# Altium integrated library SHMELib.IntLib: 385 symbols (part 2 of 3)
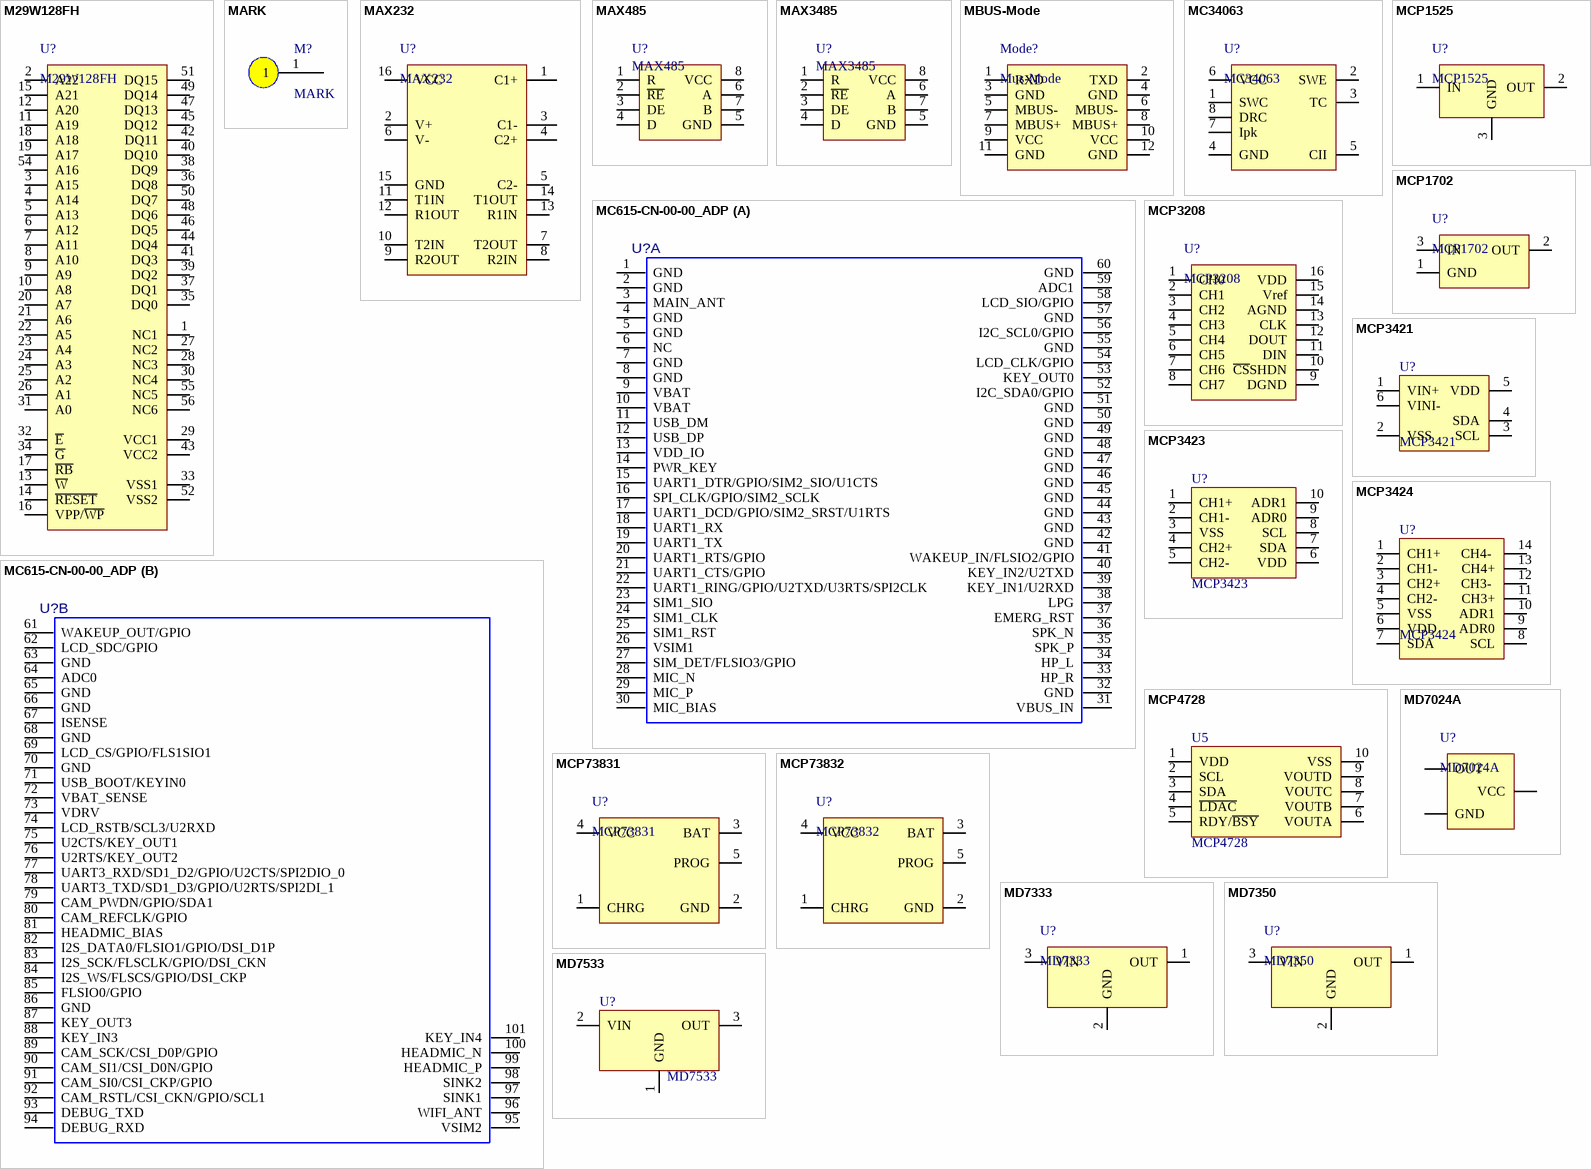
[diagram p19: symbols M29W128FH to MD7533]

## MD7024A
designator U?
footprint SOT23-3
pins: 1 OUT, 2 GND, 3 VCC

## MD7333
designator U?
CMOS电压稳压电路
footprint SOT-89-3L
pins: 1 OUT, 2 GND, 3 VIN

## MD7350
designator U?
footprint SOT-89-3L
pins: 1 OUT, 2 GND, 3 VIN

## MD7533
designator U?
footprint SOT-89-3L
pins: 1 GND, 2 VIN, 3 OUT

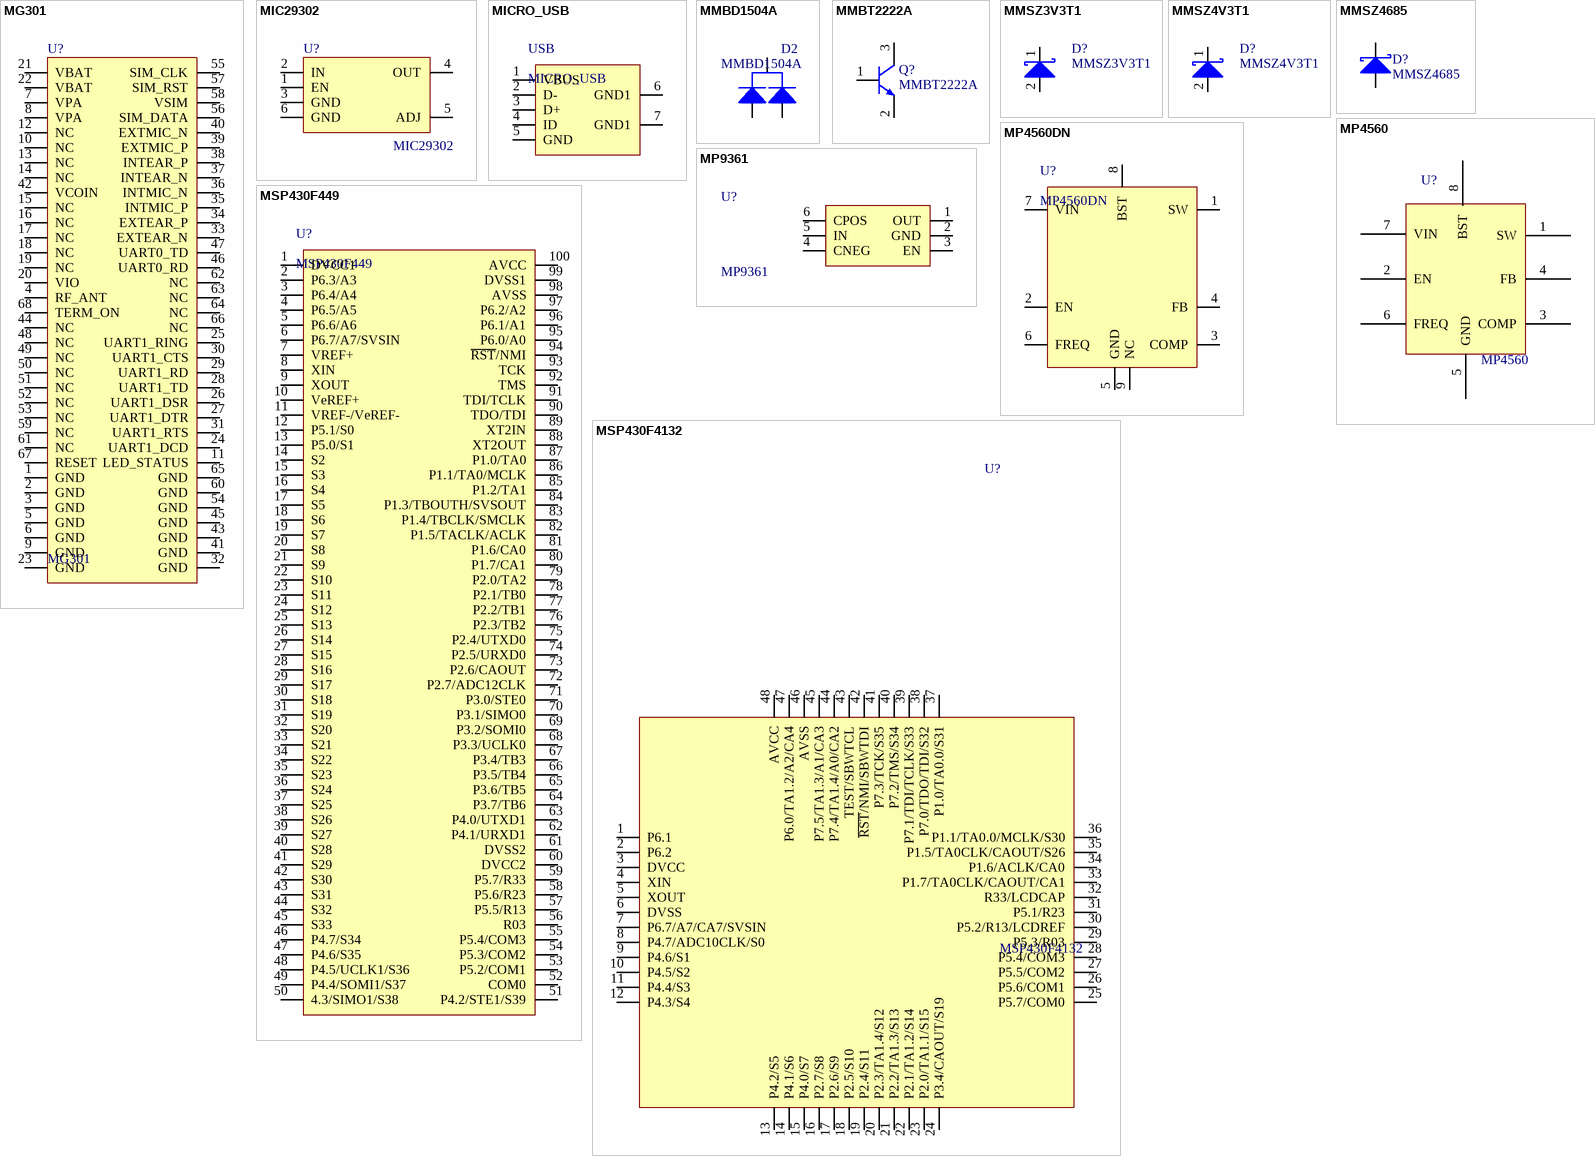
[diagram p9: symbols MG301 to MSP430F4132]

## MG301
designator U?
SIMCOM GPRS Module
footprint MG301
pins: 1 GND, 2 GND, 3 GND, 4 RF_ANT, 5 GND, 6 GND, 7 VPA, 8 VPA, 9 GND, 10 NC, 11 LED_STATUS, 12 NC, 13 NC, 14 NC, 15 NC, 16 NC, 17 NC, 18 NC, 19 NC, 20 VIO, 21 VBAT, 22 VBAT, 23 GND, 24 UART1_DCD, 25 UART1_RING, 26 UART1_DSR, 27 UART1_DTR, 28 UART1_TD, 29 UART1_RD, 30 UART1_CTS, 31 UART1_RTS, 32 GND, 33 EXTEAR_N, 34 EXTEAR_P, 35 INTMIC_P, 36 INTMIC_N, 37 INTEAR_N, 38 INTEAR_P, 39 EXTMIC_P, 40 EXTMIC_N, 41 GND, 42 VCOIN, 43 GND, 44 NC, 45 GND, 46 UART0_RD, 47 UART0_TD, 48 NC, 49 NC, 50 NC, 51 NC, 52 NC, 53 NC, 54 GND, 55 SIM_CLK, 56 SIM_DATA, 57 SIM_RST, 58 VSIM, 59 NC, 60 GND, 61 NC, 62 NC, 63 NC, 64 NC, 65 GND, 66 NC, 67 RESET, 68 TERM_ON

## MIC29302
designator U?
High-Current Low-Dropout Regulators
footprint TO-263-5
pins: 1 EN, 2 IN, 3 GND, 4 OUT, 5 ADJ, 6 GND

## MICRO_USB
designator USB
MICRO_USB-B
footprint MINI-USB-180
pins: 1 VBUS, 2 D-, 3 D+, 4 ID, 5 GND, 6 GND1, 7 GND1

## MMBD1504A
designator D2
FAIRCHILD Small Signal Diodes
footprint SOT23-3
pins: 1, 2, 3

## MMBT2222A
designator Q?
footprint SOT23-3
pins: 1 E, 2 B, 3 C

## MMSZ3V3T1
designator D?
TVS
footprint SOD-123
pins: 1 K, 2 A

## MMSZ4V3T1
designator D?
TVS
footprint SOD-123
pins: 1 K, 2 A

## MMSZ4685
designator D?
Schottky Diode
footprint SOD-123
pins: 1 A, 2 K

## MP4560
designator U?
footprint SOP-8-PAD (底部有焊盘)
footprint ZSOP8-PAD (底部有焊盘)
pins: 1 SW, 2 EN, 3 COMP, 4 FB, 5 GND, 6 FREQ, 7 VIN, 8 BST

## MP4560DN
designator U?
footprint MP4560DN_FOOTPRINT
pins: 1 SW, 2 EN, 3 COMP, 4 FB, 5 GND, 6 FREQ, 7 VIN, 8 BST, 9 NC

## MP9361
designator U?
footprint SOT23-6
pins: 1 OUT, 2 GND, 3 EN, 4 CNEG, 5 IN, 6 CPOS

## MSP430F449
designator U?
MIXEDSIGNALMICROCONTROLLER
footprint TQFP-100
pins: 1 DVCC1, 2 P6.3/A3, 3 P6.4/A4, 4 P6.5/A5, 5 P6.6/A6, 6 P6.7/A7/SVSIN, 7 VREF+, 8 XIN, 9 XOUT, 10 VeREF+, 11 VREF-/VeREF-, 12 P5.1/S0, 13 P5.0/S1, 14 S2, 15 S3, 16 S4, 17 S5, 18 S6, 19 S7, 20 S8, 21 S9, 22 S10, 23 S11, 24 S12, 25 S13, 26 S14, 27 S15, 28 S16, 29 S17, 30 S18, 31 S19, 32 S20, 33 S21, 34 S22, 35 S23, 36 S24, 37 S25, 38 S26, 39 S27, 40 S28, 41 S29, 42 S30, 43 S31, 44 S32, 45 S33, 46 P4.7/S34, 47 P4.6/S35, 48 P4.5/UCLK1/S36, 49 P4.4/SOMI1/S37, 50 4.3/SIMO1/S38, 51 P4.2/STE1/S39, 52 COM0, 53 P5.2/COM1, 54 P5.3/COM2, 55 P5.4/COM3, 56 R03, 57 P5.5/R13, 58 P5.6/R23, 59 P5.7/R33, 60 DVCC2, 61 DVSS2, 62 P4.1/URXD1, 63 P4.0/UTXD1, 64 P3.7/TB6, 65 P3.6/TB5, 66 P3.5/TB4, 67 P3.4/TB3, 68 P3.3/UCLK0, 69 P3.2/SOMI0, 70 P3.1/SIMO0, 71 P3.0/STE0, 72 P2.7/ADC12CLK, 73 P2.6/CAOUT, 74 P2.5/URXD0, 75 P2.4/UTXD0, 76 P2.3/TB2, 77 P2.2/TB1, 78 P2.1/TB0, 79 P2.0/TA2, 80 P1.7/CA1, 81 P1.6/CA0, 82 P1.5/TACLK/ACLK, 83 P1.4/TBCLK/SMCLK, 84 P1.3/TBOUTH/SVSOUT, 85 P1.2/TA1, 86 P1.1/TA0/MCLK, 87 P1.0/TA0, 88 XT2OUT, 89 XT2IN, 90 TDO/TDI, 91 TDI/TCLK, 92 TMS, 93 TCK, 94 ~{RST}/NMI, 95 P6.0/A0, 96 P6.1/A1, 97 P6.2/A2, 98 AVSS, 99 DVSS1, 100 AVCC

## MSP430F4132
designator U?
MIXEDSIGNALMICROCONTROLLER
footprint TQFP-48
pins: 1 P6.1, 2 P6.2, 3 DVCC, 4 XIN, 5 XOUT, 6 DVSS, 7 P6.7/A7/CA7/SVSIN, 8 P4.7/ADC10CLK/S0, 9 P4.6/S1, 10 P4.5/S2, 11 P4.4/S3, 12 P4.3/S4, 13 P4.2/S5, 14 P4.1/S6, 15 P4.0/S7, 16 P2.7/S8, 17 P2.6/S9, 18 P2.5/S10, 19 P2.4/S11, 20 P2.3/TA1.4/S12, 21 P2.2/TA1.3/S13, 22 P2.1/TA1.2/S14, 23 P2.0/TA1.1/S15, 24 P3.4/CAOUT/S19, 25 P5.7/COM0, 26 P5.6/COM1, 27 P5.5/COM2, 28 P5.4/COM3, 29 P5.3/R03, 30 P5.2/R13/LCDREF, 31 P5.1/R23, 32 R33/LCDCAP, 33 P1.7/TA0CLK/CAOUT/CA1, 34 P1.6/ACLK/CA0, 35 P1.5/TA0CLK/CAOUT/S26, 36 P1.1/TA0.0/MCLK/S30, 37 P1.0/TA0.0/S31, 38 P7.0/TDO/TDI/S32, 39 P7.1/TDI/TCLK/S33, 40 P7.2/TMS/S34, 41 P7.3/TCK/S35, 42 ~{RST}/NMI/SBWTDI, 43 TEST/SBWTCL, 44 P7.4/TA1.4/A0/CA2, 45 P7.5/TA1.3/A1/CA3, 46 AVSS, 47 P6.0/TA1.2/A2/CA4, 48 AVCC

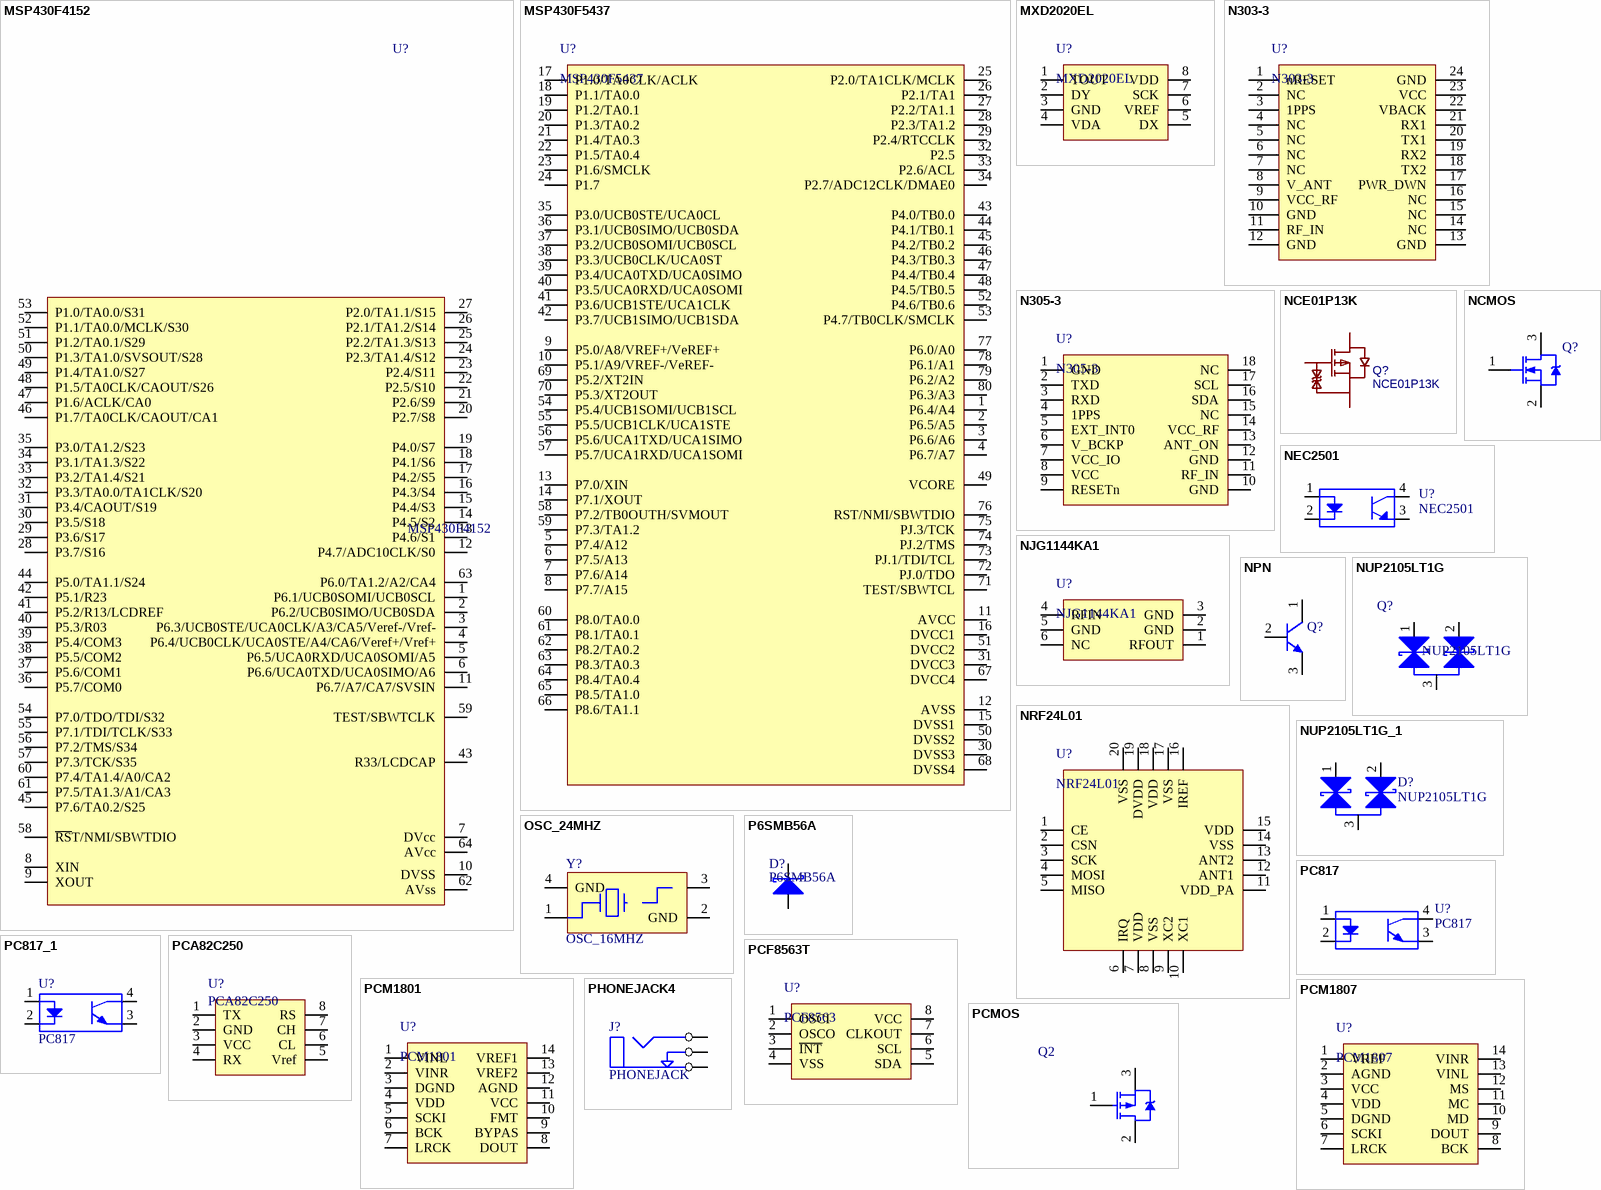
[diagram p10: symbols MSP430F4152 to PHONEJACK4]

## MSP430F4152
designator U?
MIXEDSIGNALMICROCONTROLLER
footprint TQFP-64 (Thin QFP, 64-Leads, Body 10x10mm, Pitch 0.5mm, IPC Low Density)
pins: 1 P6.1/UCB0SOMI/UCB0SCL, 2 P6.2/UCB0SIMO/UCB0SDA, 3 P6.3/UCB0STE/UCA0CLK/A3/CA5/Veref-/Vref-, 4 P6.4/UCB0CLK/UCA0STE/A4/CA6/Veref+/Vref+, 5 P6.5/UCA0RXD/UCA0SOMI/A5, 6 P6.6/UCA0TXD/UCA0SIMO/A6, 7 DVcc, 8 XIN, 9 XOUT, 10 DVSS, 11 P6.7/A7/CA7/SVSIN, 12 P4.7/ADC10CLK/S0, 13 P4.6/S1, 14 P4.5/S2, 15 P4.4/S3, 16 P4.3/S4, 17 P4.2/S5, 18 P4.1/S6, 19 P4.0/S7, 20 P2.7/S8, 21 P2.6/S9, 22 P2.5/S10, 23 P2.4/S11 (power), 24 P2.3/TA1.4/S12, 25 P2.2/TA1.3/S13, 26 P2.1/TA1.2/S14, 27 P2.0/TA1.1/S15, 28 P3.7/S16, 29 P3.6/S17, 30 P3.5/S18, 31 P3.4/CAOUT/S19, 32 P3.3/TA0.0/TA1CLK/S20, 33 P3.2/TA1.4/S21, 34 P3.1/TA1.3/S22, 35 P3.0/TA1.2/S23, 36 P5.7/COM0, 37 P5.6/COM1, 38 P5.5/COM2, 39 P5.4/COM3, 40 P5.3/R03, 41 P5.2/R13/LCDREF, 42 P5.1/R23, 43 R33/LCDCAP, 44 P5.0/TA1.1/S24, 45 P7.6/TA0.2/S25, 46 P1.7/TA0CLK/CAOUT/CA1, 47 P1.6/ACLK/CA0, 48 P1.5/TA0CLK/CAOUT/S26, 49 P1.4/TA1.0/S27, 50 P1.3/TA1.0/SVSOUT/S28, 51 P1.2/TA0.1/S29, 52 P1.1/TA0.0/MCLK/S30, 53 P1.0/TA0.0/S31, 54 P7.0/TDO/TDI/S32, 55 P7.1/TDI/TCLK/S33, 56 P7.2/TMS/S34, 57 P7.3/TCK/S35, 58 ~{RS}T/NMI/SBWTDIO, 59 TEST/SBWTCLK, 60 P7.4/TA1.4/A0/CA2, 61 P7.5/TA1.3/A1/CA3, 62 AVss, 63 P6.0/TA1.2/A2/CA4, 64 AVcc

## MSP430F5437
designator U?
MSP430F543xandMSP430F541xMixed-SignalMicrocontrollers
footprint TQFP-80
pins: 1 P6.4/A4, 2 P6.5/A5, 3 P6.6/A6, 4 P6.7/A7, 5 P7.4/A12, 6 P7.5/A13, 7 P7.6/A14, 8 P7.7/A15, 9 P5.0/A8/VREF+/VeREF+, 10 P5.1/A9/VREF-/VeREF-, 11 AVCC, 12 AVSS, 13 P7.0/XIN, 14 P7.1/XOUT, 15 DVSS1, 16 DVCC1, 17 P1.0/TA0CLK/ACLK, 18 P1.1/TA0.0, 19 P1.2/TA0.1, 20 P1.3/TA0.2, 21 P1.4/TA0.3, 22 P1.5/TA0.4, 23 P1.6/SMCLK, 24 P1.7, 25 P2.0/TA1CLK/MCLK, 26 P2.1/TA1, 27 P2.2/TA1.1, 28 P2.3/TA1.2, 29 P2.4/RTCCLK, 30 DVSS3, 31 DVCC3, 32 P2.5, 33 P2.6/ACL, 34 P2.7/ADC12CLK/DMAE0, 35 P3.0/UCB0STE/UCA0CL, 36 P3.1/UCB0SIMO/UCB0SDA, 37 P3.2/UCB0SOMI/UCB0SCL, 38 P3.3/UCB0CLK/UCA0ST, 39 P3.4/UCA0TXD/UCA0SIMO, 40 P3.5/UCA0RXD/UCA0SOMI, 41 P3.6/UCB1STE/UCA1CLK, 42 P3.7/UCB1SIMO/UCB1SDA, 43 P4.0/TB0.0, 44 P4.1/TB0.1, 45 P4.2/TB0.2, 46 P4.3/TB0.3, 47 P4.4/TB0.4, 48 P4.5/TB0.5, 49 VCORE, 50 DVSS2, 51 DVCC2, 52 P4.6/TB0.6, 53 P4.7/TB0CLK/SMCLK, 54 P5.4/UCB1SOMI/UCB1SCL, 55 P5.5/UCB1CLK/UCA1STE, 56 P5.6/UCA1TXD/UCA1SIMO, 57 P5.7/UCA1RXD/UCA1SOMI, 58 P7.2/TB0OUTH/SVMOUT, 59 P7.3/TA1.2, 60 P8.0/TA0.0, 61 P8.1/TA0.1, 62 P8.2/TA0.2, 63 P8.3/TA0.3, 64 P8.4/TA0.4, 65 P8.5/TA1.0, 66 P8.6/TA1.1, 67 DVCC4, 68 DVSS4, 69 P5.2/XT2IN, 70 P5.3/XT2OUT, 71 TEST/SBWTCL, 72 PJ.0/TDO, 73 PJ.1/TDI/TCL, 74 PJ.2/TMS, 75 PJ.3/TCK, 76 RST/NMI/SBWTDIO, 77 P6.0/A0, 78 P6.1/A1, 79 P6.2/A2, 80 P6.3/A3

## MXD2020EL
designator U?
footprint MXD2020EL
pins: 1 TOUT, 2 DY, 3 GND, 4 VDA, 5 DX, 6 VREF, 7 SCK, 8 VDD

## N303-3
designator U?
footprint N303-3
pins: 1 nRESET, 2 NC, 3 1PPS, 4 NC, 5 NC, 6 NC, 7 NC, 8 V_ANT, 9 VCC_RF, 10 GND, 11 RF_IN, 12 GND, 13 GND, 14 NC, 15 NC, 16 NC, 17 PWR_DWN, 18 TX2, 19 RX2, 20 TX1, 21 RX1, 22 VBACK, 23 VCC, 24 GND

## N305-3
designator U?
footprint N305 -3
pins: 1 GND, 2 TXD, 3 RXD, 4 1PPS, 5 EXT_INT0, 6 V_BCKP, 7 VCC_IO, 8 VCC, 9 RESETn, 10 GND, 11 RF_IN, 12 GND, 13 ANT_ON, 14 VCC_RF, 15 NC, 16 SDA, 17 SCL, 18 NC

## NCE01P13K
designator Q?
footprint TO-252-2_L6.6-W6.1-P4.57-LS9.9-TL-CW
pins: 1 G, 2 D, 3 S

## NCMOS
designator Q?
N-Channel MOSFET
footprint SOT23-3
pins: 1 G, 2 S, 3 D

## NEC2501
designator U?
光电耦合器
footprint PC817
pins: 1, 2, 3, 4

## NJG1144KA1
designator U?
pins: 1 RFOUT, 2 GND, 3 GND, 4 RFIN, 5 GND, 6 NC

## NPN
designator Q?
NPN General Purpose Amplifier
footprint SOT23-3
footprint TO-92 (TO, Flat Index; 3 In-Line, Axial Leads; Body Dia. 4.8mm; Leads 0.55 x 0.51 mm (max))
footprint SOT-89-3L
pins: 1 E, 2 B, 3 C

## NRF24L01
designator U?
pins: 1 CE, 2 CSN, 3 SCK, 4 MOSI, 5 MISO, 6 IRQ, 7 VDD, 8 VSS, 9 XC2, 10 XC1, 11 VDD_PA, 12 ANT1, 13 ANT2, 14 VSS, 15 VDD, 16 IREF, 17 VSS, 18 VDD, 19 DVDD, 20 VSS

## NUP2105LT1G
designator Q?
footprint SOT23-3
pins: 1, 2, 3

## NUP2105LT1G_1
designator D?, comment NUP2105LT1G
TVS
footprint SOT23-3
footprint ZSOT23-3
pins: 1, 2, 3

## OSC_24MHZ
designator Y?, comment OSC_16MHZ
footprint OSC_SMD3225
pins: 1, 2 GND, 3, 4 GND
2 alternate drawings of the same symbol

## P6SMB56A
designator D?
Schottky Diode
footprint SMB
pins: 1 A, 2 K

## PC817
designator U?
光电耦合器
footprint PC817
footprint PC817 - SMT
pins: 1, 2, 3, 4

## PC817_1
designator U?, comment PC817
光电耦合器
footprint PC817
footprint PC817 - SMT
pins: 1, 2, 3, 4

## PCA82C250
designator U?
CAN BUS
footprint SO-8
pins: 1 TX, 2 GND, 3 VCC, 4 RX, 5 Vref, 6 CL, 7 CH, 8 RS

## PCF8563T
designator U?, comment PCF8563
RTC
footprint SO-8
pins: 1 OSCI, 2 OSCO, 3 ~{INT}, 4 VSS, 5 SDA, 6 SCL, 7 CLKOUT, 8 VCC

## PCM1801
designator U?
SINGLE-ENDED ANALOG-INPUT 16-BIT STEREO ANALOG-TO-DIGITAL CONVERTER
footprint SO-14
pins: 1 VINL, 2 VINR, 3 DGND, 4 VDD, 5 SCKI, 6 BCK, 7 LRCK, 8 DOUT, 9 BYPAS, 10 FMT, 11 VCC, 12 AGND, 13 VREF2, 14 VREF1

## PCM1807
designator U?
Single-Ended, Analog-Input 24-Bit, 96-kHz Stereo A/D Converter
footprint TSSOP-14
pins: 1 VREF, 2 AGND, 3 VCC, 4 VDD, 5 DGND, 6 SCKI, 7 LRCK, 8 BCK, 9 DOUT, 10 MD, 11 MC, 12 MS, 13 VINL, 14 VINR

## PCMOS
designator Q2
P-Channel Power MOSFET
footprint SOT23-3
pins: 1 G, 2 D, 3 S

## PHONEJACK4
designator J?, comment PHONEJACK
footprint DS-313
pins: 1 A, 2 B, 3 C

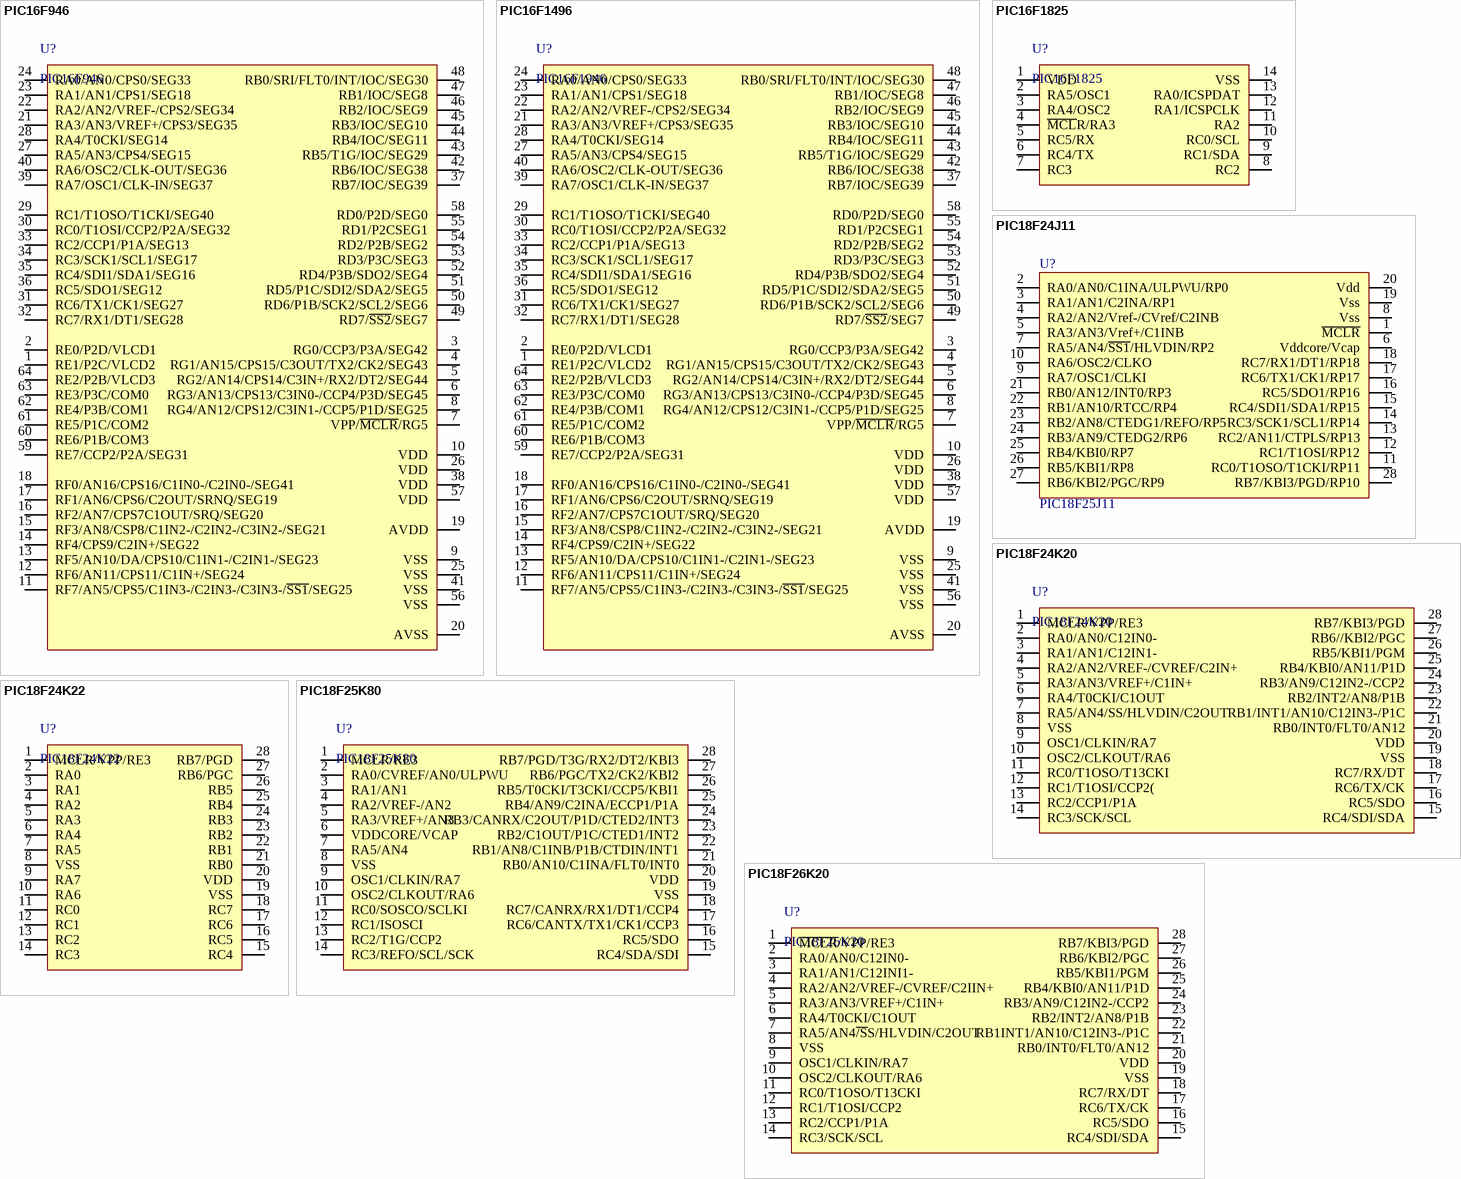
[diagram p11: symbols PIC16F946 to PIC18F26K20]

## PIC16F946
designator U?
footprint TQFP-64 (Thin QFP, 64-Leads, Body 14x14mm, Pitch 0.8mm, IPC Low Density)
pins: 1 RE1/P2C/VLCD2, 2 RE0/P2D/VLCD1, 3 RG0/CCP3/P3A/SEG42, 4 RG1/AN15/CPS15/C3OUT/TX2/CK2/SEG43, 5 RG2/AN14/CPS14/C3IN+/RX2/DT2/SEG44, 6 RG3/AN13/CPS13/C3IN0-/CCP4/P3D/SEG45, 7 VPP/~{MCLR}/RG5, 8 RG4/AN12/CPS12/C3IN1-/CCP5/P1D/SEG25, 9 VSS, 10 VDD, 11 RF7/AN5/CPS5/C1IN3-/C2IN3-/C3IN3-/~{SS1}/SEG25, 12 RF6/AN11/CPS11/C1IN+/SEG24, 13 RF5/AN10/DA/CPS10/C1IN1-/C2IN1-/SEG23, 14 RF4/CPS9/C2IN+/SEG22, 15 RF3/AN8/CSP8/C1IN2-/C2IN2-/C3IN2-/SEG21, 16 RF2/AN7/CPS7C1OUT/SRQ/SEG20, 17 RF1/AN6/CPS6/C2OUT/SRNQ/SEG19, 18 RF0/AN16/CPS16/C1IN0-/C2IN0-/SEG41, 19 AVDD, 20 AVSS, 21 RA3/AN3/VREF+/CPS3/SEG35, 22 RA2/AN2/VREF-/CPS2/SEG34, 23 RA1/AN1/CPS1/SEG18, 24 RA0/AN0/CPS0/SEG33, 25 VSS, 26 VDD, 27 RA5/AN3/CPS4/SEG15, 28 RA4/T0CKI/SEG14, 29 RC1/T1OSO/T1CKI/SEG40, 30 RC0/T1OSI/CCP2/P2A/SEG32, 31 RC6/TX1/CK1/SEG27, 32 RC7/RX1/DT1/SEG28, 33 RC2/CCP1/P1A/SEG13, 34 RC3/SCK1/SCL1/SEG17, 35 RC4/SDI1/SDA1/SEG16, 36 RC5/SDO1/SEG12, 37 RB7/IOC/SEG39, 38 VDD, 39 RA7/OSC1/CLK-IN/SEG37, 40 RA6/OSC2/CLK-OUT/SEG36, 41 VSS, 42 RB6/IOC/SEG38, 43 RB5/T1G/IOC/SEG29, 44 RB4/IOC/SEG11, 45 RB3/IOC/SEG10, 46 RB2/IOC/SEG9, 47 RB1/IOC/SEG8, 48 RB0/SRI/FLT0/INT/IOC/SEG30, 49 RD7/~{SS2}/SEG7, 50 RD6/P1B/SCK2/SCL2/SEG6, 51 RD5/P1C/SDI2/SDA2/SEG5, 52 RD4/P3B/SDO2/SEG4, 53 RD3/P3C/SEG3, 54 RD2/P2B/SEG2, 55 RD1/P2CSEG1, 56 VSS, 57 VDD, 58 RD0/P2D/SEG0, 59 RE7/CCP2/P2A/SEG31, 60 RE6/P1B/COM3, 61 RE5/P1C/COM2, 62 RE4/P3B/COM1, 63 RE3/P3C/COM0, 64 RE2/P2B/VLCD3

## PIC16F1496
designator U?, comment PIC16F1946
footprint TQFP-64 (Thin QFP, 64-Leads, Body 14x14mm, Pitch 0.8mm, IPC Low Density)
pins: 1 RE1/P2C/VLCD2, 2 RE0/P2D/VLCD1, 3 RG0/CCP3/P3A/SEG42, 4 RG1/AN15/CPS15/C3OUT/TX2/CK2/SEG43, 5 RG2/AN14/CPS14/C3IN+/RX2/DT2/SEG44, 6 RG3/AN13/CPS13/C3IN0-/CCP4/P3D/SEG45, 7 VPP/~{MCLR}/RG5, 8 RG4/AN12/CPS12/C3IN1-/CCP5/P1D/SEG25, 9 VSS, 10 VDD, 11 RF7/AN5/CPS5/C1IN3-/C2IN3-/C3IN3-/~{SS1}/SEG25, 12 RF6/AN11/CPS11/C1IN+/SEG24, 13 RF5/AN10/DA/CPS10/C1IN1-/C2IN1-/SEG23, 14 RF4/CPS9/C2IN+/SEG22, 15 RF3/AN8/CSP8/C1IN2-/C2IN2-/C3IN2-/SEG21, 16 RF2/AN7/CPS7C1OUT/SRQ/SEG20, 17 RF1/AN6/CPS6/C2OUT/SRNQ/SEG19, 18 RF0/AN16/CPS16/C1IN0-/C2IN0-/SEG41, 19 AVDD, 20 AVSS, 21 RA3/AN3/VREF+/CPS3/SEG35, 22 RA2/AN2/VREF-/CPS2/SEG34, 23 RA1/AN1/CPS1/SEG18, 24 RA0/AN0/CPS0/SEG33, 25 VSS, 26 VDD, 27 RA5/AN3/CPS4/SEG15, 28 RA4/T0CKI/SEG14, 29 RC1/T1OSO/T1CKI/SEG40, 30 RC0/T1OSI/CCP2/P2A/SEG32, 31 RC6/TX1/CK1/SEG27, 32 RC7/RX1/DT1/SEG28, 33 RC2/CCP1/P1A/SEG13, 34 RC3/SCK1/SCL1/SEG17, 35 RC4/SDI1/SDA1/SEG16, 36 RC5/SDO1/SEG12, 37 RB7/IOC/SEG39, 38 VDD, 39 RA7/OSC1/CLK-IN/SEG37, 40 RA6/OSC2/CLK-OUT/SEG36, 41 VSS, 42 RB6/IOC/SEG38, 43 RB5/T1G/IOC/SEG29, 44 RB4/IOC/SEG11, 45 RB3/IOC/SEG10, 46 RB2/IOC/SEG9, 47 RB1/IOC/SEG8, 48 RB0/SRI/FLT0/INT/IOC/SEG30, 49 RD7/~{SS2}/SEG7, 50 RD6/P1B/SCK2/SCL2/SEG6, 51 RD5/P1C/SDI2/SDA2/SEG5, 52 RD4/P3B/SDO2/SEG4, 53 RD3/P3C/SEG3, 54 RD2/P2B/SEG2, 55 RD1/P2CSEG1, 56 VSS, 57 VDD, 58 RD0/P2D/SEG0, 59 RE7/CCP2/P2A/SEG31, 60 RE6/P1B/COM3, 61 RE5/P1C/COM2, 62 RE4/P3B/COM1, 63 RE3/P3C/COM0, 64 RE2/P2B/VLCD3

## PIC16F1825
designator U?
14/20-Pin Flash Microcontrollers with XLP Technology
footprint TSSOP-14
pins: 1 VDD, 2 RA5/OSC1, 3 RA4/OSC2, 4 ~{MCL}R/RA3, 5 RC5/RX, 6 RC4/TX, 7 RC3, 8 RC2, 9 RC1/SDA, 10 RC0/SCL, 11 RA2, 12 RA1/ICSPCLK, 13 RA0/ICSPDAT, 14 VSS

## PIC18F24J11
designator U?, comment PIC18F25J11
Microchip High-Performance Microcontrollers with nanoWatt XLP Technology
footprint SSOP-28
pins: 1 ~{MCLR}, 2 RA0/AN0/C1INA/ULPWU/RP0, 3 RA1/AN1/C2INA/RP1, 4 RA2/AN2/Vref-/CVref/C2INB, 5 RA3/AN3/Vref+/C1INB, 6 Vddcore/Vcap, 7 RA5/AN4/~{SS1}/HLVDIN/RP2, 8 Vss, 9 RA7/OSC1/CLKI, 10 RA6/OSC2/CLKO, 11 RC0/T1OSO/T1CKI/RP11, 12 RC1/T1OSI/RP12, 13 RC2/AN11/CTPLS/RP13, 14 RC3/SCK1/SCL1/RP14, 15 RC4/SDI1/SDA1/RP15, 16 RC5/SDO1/RP16, 17 RC6/TX1/CK1/RP17, 18 RC7/RX1/DT1/RP18, 19 Vss, 20 Vdd, 21 RB0/AN12/INT0/RP3, 22 RB1/AN10/RTCC/RP4, 23 RB2/AN8/CTEDG1/REFO/RP5, 24 RB3/AN9/CTEDG2/RP6, 25 RB4/KBI0/RP7, 26 RB5/KBI1/RP8, 27 RB6/KBI2/PGC/RP9, 28 RB7/KBI3/PGD/RP10

## PIC18F24K20
designator U?
28/40/44-Pin Flash Microcontrollerswith nanoWatt XLP Technology
footprint SSOP-28
pins: 1 MCLR/VPP/RE3, 2 RA0/AN0/C12IN0- , 3 RA1/AN1/C12IN1-, 4 RA2/AN2/VREF-/CVREF/C2IN+, 5 RA3/AN3/VREF+/C1IN+, 6 RA4/T0CKI/C1OUT, 7 RA5/AN4/SS/HLVDIN/C2OUT, 8 VSS, 9 OSC1/CLKIN/RA7, 10 OSC2/CLKOUT/RA6, 11 RC0/T1OSO/T13CKI, 12 RC1/T1OSI/CCP2(, 13 RC2/CCP1/P1A, 14 RC3/SCK/SCL, 15 RC4/SDI/SDA, 16 RC5/SDO, 17 RC6/TX/CK, 18 RC7/RX/DT, 19 VSS, 20 VDD, 21 RB0/INT0/FLT0/AN12, 22 RB1/INT1/AN10/C12IN3-/P1C, 23 RB2/INT2/AN8/P1B, 24 RB3/AN9/C12IN2-/CCP2, 25 RB4/KBI0/AN11/P1D, 26 RB5/KBI1/PGM, 27 RB6//KBI2/PGC, 28 RB7/KBI3/PGD

## PIC18F24K22
designator U?
Low-Power,  High-Performance Microcontrollers  with XLP Technology
footprint SSOP-28
pins: 1 MCLR/VPP/RE3, 2 RA0, 3 RA1, 4 RA2, 5 RA3, 6 RA4, 7 RA5, 8 VSS, 9 RA7, 10 RA6, 11 RC0, 12 RC1, 13 RC2, 14 RC3, 15 RC4, 16 RC5, 17 RC6, 18 RC7, 19 VSS, 20 VDD, 21 RB0, 22 RB1, 23 RB2, 24 RB3, 25 RB4, 26 RB5, 27 RB6/PGC, 28 RB7/PGD

## PIC18F25K80
designator U?
footprint SSOP-28
pins: 1 MCLR/RE3, 2 RA0/CVREF/AN0/ULPWU, 3 RA1/AN1, 4 RA2/VREF-/AN2, 5 RA3/VREF+/AN3, 6 VDDCORE/VCAP, 7 RA5/AN4, 8 VSS, 9 OSC1/CLKIN/RA7, 10 OSC2/CLKOUT/RA6, 11 RC0/SOSCO/SCLKI, 12 RC1/ISOSCI, 13 RC2/T1G/CCP2, 14 RC3/REFO/SCL/SCK, 15 RC4/SDA/SDI, 16 RC5/SDO, 17 RC6/CANTX/TX1/CK1/CCP3, 18 RC7/CANRX/RX1/DT1/CCP4, 19 VSS, 20 VDD, 21 RB0/AN10/C1INA/FLT0/INT0, 22 RB1/AN8/C1INB/P1B/CTDIN/INT1, 23 RB2/C1OUT/P1C/CTED1/INT2, 24 RB3/CANRX/C2OUT/P1D/CTED2/INT3, 25 RB4/AN9/C2INA/ECCP1/P1A, 26 RB5/T0CKI/T3CKI/CCP5/KBI1, 27 RB6/PGC/TX2/CK2/KBI2, 28 RB7/PGD/T3G/RX2/DT2/KBI3

## PIC18F26K20
designator U?
28/40/44-Pin Flash Microcontrollers with nanoWatt XLP Technology
footprint SSOP-28
pins: 1 ~{MCLR}/VPP/RE3, 2 RA0/AN0/C12IN0-, 3 RA1/AN1/C12INI1-, 4 RA2/AN2/VREF-/CVREF/C2IIN+, 5 RA3/AN3/VREF+/C1IN+, 6 RA4/T0CKI/C1OUT, 7 RA5/AN4~{/S}S/HLVDIN/C2OUT, 8 VSS, 9 OSC1/CLKIN/RA7, 10 OSC2/CLKOUT/RA6, 11 RC0/T1OSO/T13CKI, 12 RC1/T1OSI/CCP2, 13 RC2/CCP1/P1A, 14 RC3/SCK/SCL, 15 RC4/SDI/SDA, 16 RC5/SDO, 17 RC6/TX/CK, 18 RC7/RX/DT, 19 VSS, 20 VDD, 21 RB0/INT0/FLT0/AN12, 22 RB1INT1/AN10/C12IN3-/P1C, 23 RB2/INT2/AN8/P1B, 24 RB3/AN9/C12IN2-/CCP2, 25 RB4/KBI0/AN11/P1D, 26 RB5/KBI1/PGM, 27 RB6/KBI2/PGC, 28 RB7/KBI3/PGD

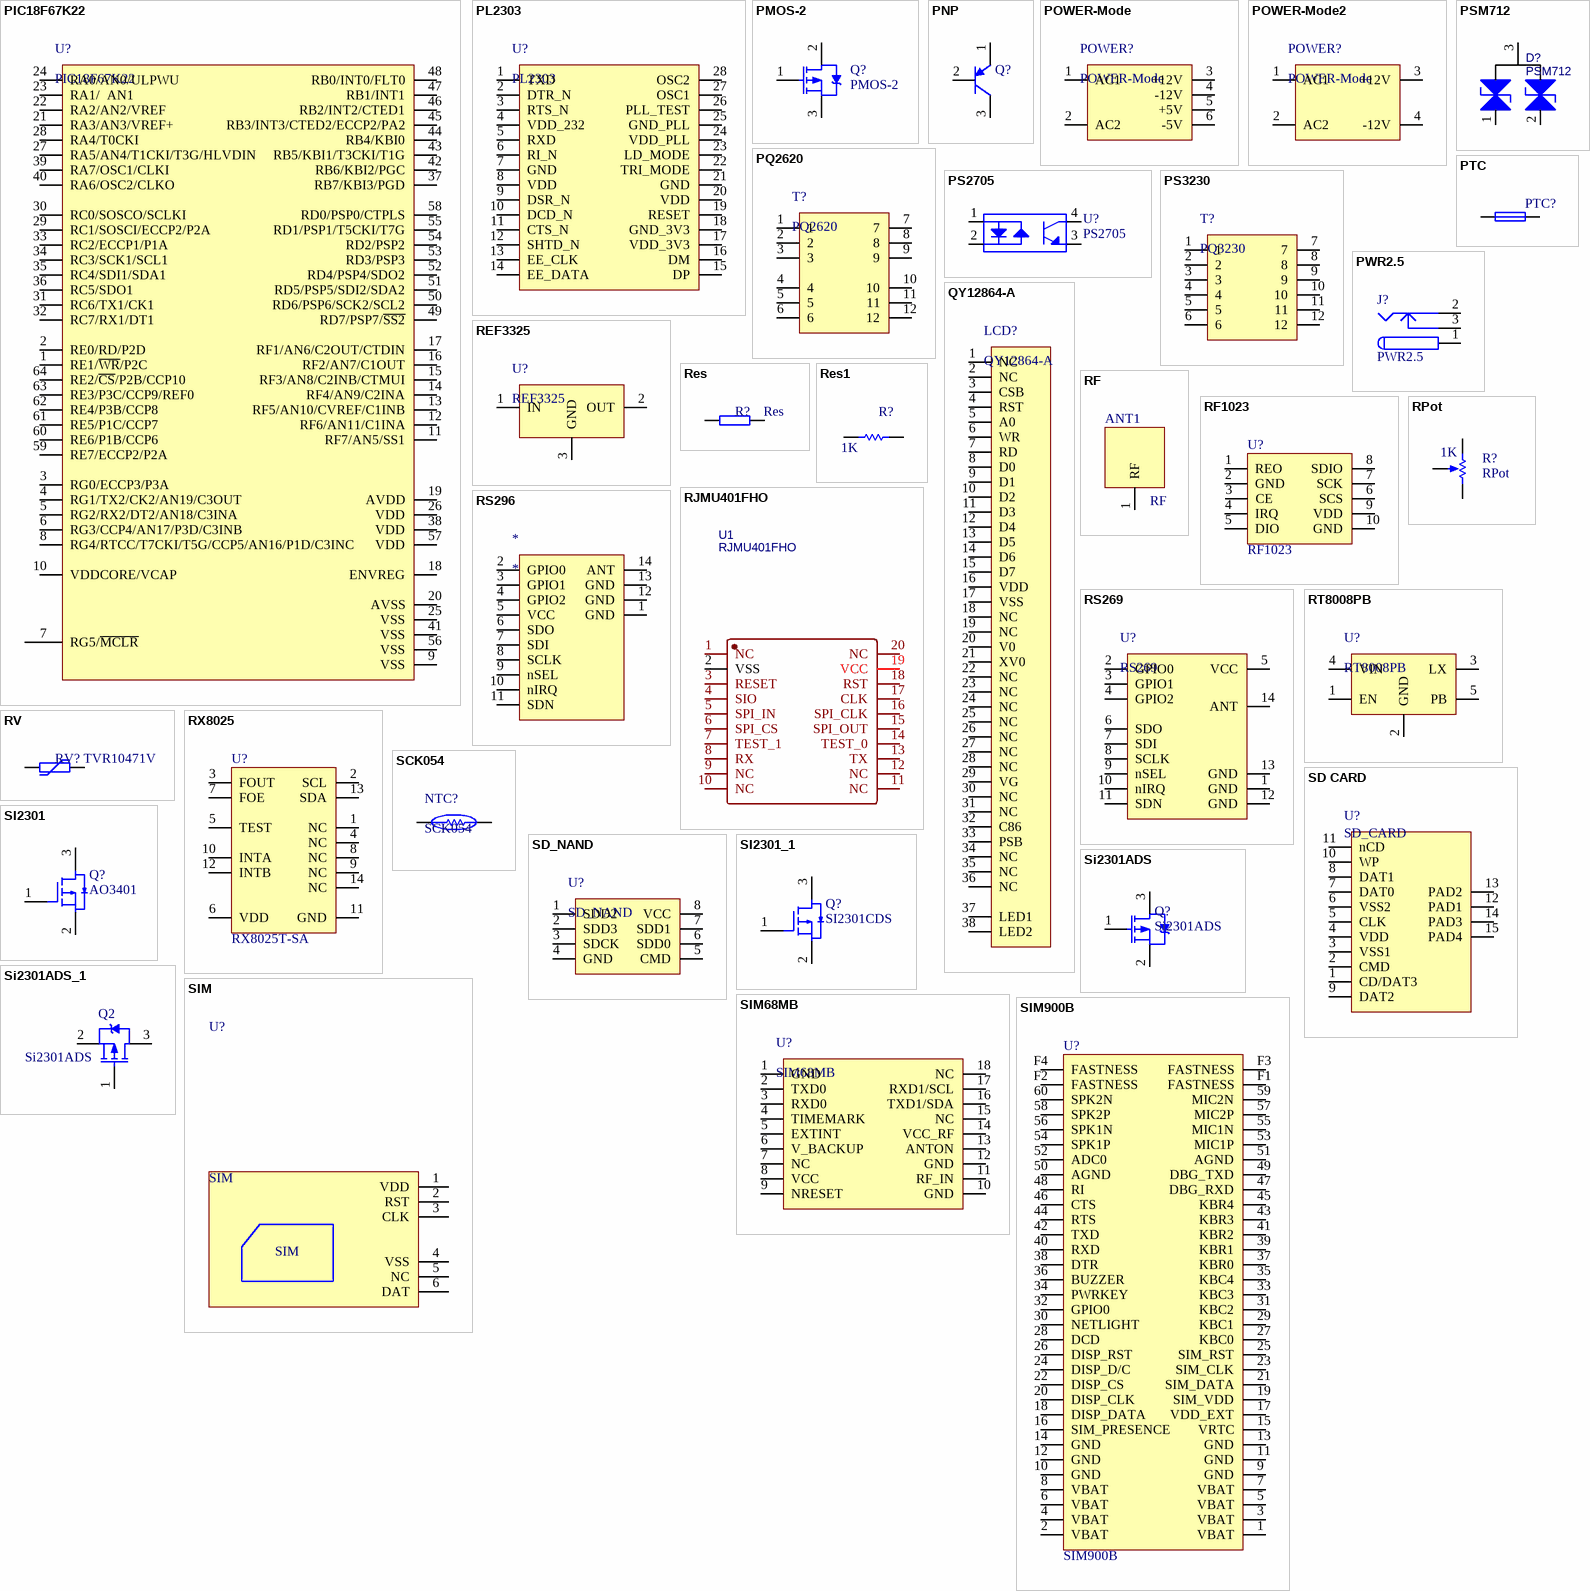
[diagram p12: symbols PIC18F67K22 to SIM900B]

## PIC18F67K22
designator U?
64/80-Pin, High-Performance,  1-Mbit Enhanced Flash Microcontrollers  with 12-Bit A/D and  nanoWatt XLP Technology
footprint TQFP-64 (Thin QFP, 64-Leads, Body 10x10mm, Pitch 0.5mm, IPC Low Density)
pins: 1 RE1/~{WR}/P2C, 2 RE0/RD/P2D, 3 RG0/ECCP3/P3A, 4 RG1/TX2/CK2/AN19/C3OUT, 5 RG2/RX2/DT2/AN18/C3INA, 6 RG3/CCP4/AN17/P3D/C3INB, 7 RG5/~{MCLR}, 8 RG4/RTCC/T7CKI/T5G/CCP5/AN16/P1D/C3INC, 9 VSS, 10 VDDCORE/VCAP, 11 RF7/AN5/SS1, 12 RF6/AN11/C1INA, 13 RF5/AN10/CVREF/C1INB, 14 RF4/AN9/C2INA, 15 RF3/AN8/C2INB/CTMUI, 16 RF2/AN7/C1OUT, 17 RF1/AN6/C2OUT/CTDIN, 18 ENVREG, 19 AVDD, 20 AVSS, 21 RA3/AN3/VREF+, 22 RA2/AN2/VREF, 23 RA1/  AN1, 24 RA0/AN0/ULPWU, 25 VSS, 26 VDD, 27 RA5/AN4/T1CKI/T3G/HLVDIN, 28 RA4/T0CKI, 29 RC1/SOSCI/ECCP2/P2A, 30 RC0/SOSCO/SCLKI, 31 RC6/TX1/CK1, 32 RC7/RX1/DT1, 33 RC2/ECCP1/P1A, 34 RC3/SCK1/SCL1, 35 RC4/SDI1/SDA1, 36 RC5/SDO1, 37 RB7/KBI3/PGD, 38 VDD, 39 RA7/OSC1/CLKI, 40 RA6/OSC2/CLKO, 41 VSS, 42 RB6/KBI2/PGC, 43 RB5/KBI1/T3CKI/T1G, 44 RB4/KBI0, 45 RB3/INT3/CTED2/ECCP2/PA2, 46 RB2/INT2/CTED1, 47 RB1/INT1, 48 RB0/INT0/FLT0, 49 RD7/PSP7/~{SS2}, 50 RD6/PSP6/SCK2/SCL2, 51 RD5/PSP5/SDI2/SDA2, 52 RD4/PSP4/SDO2, 53 RD3/PSP3, 54 RD2/PSP2, 55 RD1/PSP1/T5CKI/T7G, 56 VSS, 57 VDD, 58 RD0/PSP0/CTPLS, 59 RE7/ECCP2/P2A, 60 RE6/P1B/CCP6, 61 RE5/P1C/CCP7, 62 RE4/P3B/CCP8, 63 RE3/P3C/CCP9/REF0, 64 RE2/~{CS}/P2B/CCP10

## PL2303
designator U?
USB转RS232控制器
footprint SSOP-28
pins: 1 TXD, 2 DTR_N, 3 RTS_N, 4 VDD_232, 5 RXD, 6 RI_N, 7 GND, 8 VDD, 9 DSR_N, 10 DCD_N, 11 CTS_N, 12 SHTD_N, 13 EE_CLK, 14 EE_DATA, 15 DP, 16 DM, 17 VDD_3V3, 18 GND_3V3, 19 RESET, 20 VDD, 21 GND, 22 TRI_MODE, 23 LD_MODE, 24 VDD_PLL, 25 GND_PLL, 26 PLL_TEST, 27 OSC1, 28 OSC2

## PMOS-2
designator Q?
P-Channel Power MOSFET
footprint TO-252-3
pins: 1 G, 2 D, 3 S

## PNP
designator Q?
PNP General Purpose Amplifier
footprint SOT23-3
footprint TO-92 (TO, Flat Index; 3 In-Line, Axial Leads; Body Dia. 4.8mm; Leads 0.55 x 0.51 mm (max))
pins: 1 E, 2 B, 3 C

## POWER-Mode
designator POWER?
开关电源模块
footprint POWER-Mode
pins: 1 AC1, 2 AC2, 3 +12V, 4 -12V, 5 +5V, 6 -5V

## POWER-Mode2
designator POWER?, comment POWER-Mode
+12V开关电源
footprint POWER-Mode-2
pins: 1 AC1, 2 AC2, 3 +12V, 4 -12V

## PQ2620
designator T?
footprint PQ2620
pins: 1, 2, 3, 4, 5, 6, 7, 8, 9, 10, 11, 12

## PS2705
designator U?
光电耦合器
footprint PS2705
pins: 1, 2, 3, 4

## PS3230
designator T?, comment PQ3230
pins: 1, 2, 3, 4, 5, 6, 7, 8, 9, 10, 11, 12

## PSM712
designator D?
footprint SOT23-3
pins: 1, 2, 3

## PTC
designator PTC?  (value not drawn)
footprint BK250-040
footprint 1206
footprint BK30-200
footprint 0805
pins: 1, 2

## PWR2.5
designator J?
Low Voltage Power Supply Connector
footprint KLD-0202 (DC Power Jack, 2.5mm, KLD Series, PCB Mount)
pins: 1, 2, 3

## QY12864-A
designator LCD?
footprint FPC-0.5mm-36PIN
pins: 1 NC, 2 NC, 3 CSB, 4 RST, 5 A0, 6 WR, 7 RD, 8 D0, 9 D1, 10 D2, 11 D3, 12 D4, 13 D5, 14 D6, 15 D7, 16 VDD, 17 VSS, 18 NC, 19 NC, 20 V0, 21 XV0, 22 NC, 23 NC, 24 NC, 25 NC, 26 NC, 27 NC, 28 NC, 29 VG, 30 NC, 31 NC, 32 C86, 33 PSB, 34 NC, 35 NC, 36 NC, 37 LED1, 38 LED2

## REF3325
designator U?
参考电源芯片
footprint SOT23-3
pins: 1 IN, 2 OUT, 3 GND

## Res
designator R?
Resistor
footprint R0805
footprint R0603
pins: 1, 2

## Res1
designator R?  value 1K  (hidden comment: Res1)
Resistor
footprint R0603
footprint R0805
pins: 1, 2

## RF
designator ANT1
footprint GSM_ANT
pins: 1 RF

## RF1023
designator U?
footprint RF1023
pins: 1 REO, 2 GND, 3 CE, 4 IRQ, 5 DIO, 6 SCS, 7 SCK, 8 SDIO, 9 VDD, 10 GND

## RJMU401FHO
designator U1
BOM_Manufacturer: Runjet; Contributor: LCSC; BOM_Supplier: LCSC; BOM_Supplier Part: C490104; BOM_Manufacturer Part: RJMU401FHO; BOM_JLCPCB Part Class: Extended Part; spicePre: U; spiceSymbolName: RJMU401FHO
footprint SSOP-20
pins: 1 NC, 2 VSS, 3 RESET, 4 SIO, 5 SPI_IN, 6 SPI_CS, 7 TEST_1, 8 RX, 9 NC, 10 NC, 11 NC, 12 NC, 13 TX, 14 TEST_0, 15 SPI_OUT, 16 SPI_CLK, 17 CLK, 18 RST, 19 VCC, 20 NC

## RPot
designator R?  value 1K
Potentiometer
footprint VR5 (Potentiometer; 3 Leads)
pins: 1 TOP, 2 BOT, 3 TAP
1 alternate drawing of the same symbol

## RS269
designator U?
footprint RS296
pins: 1 GND, 2 GPIO0, 3 GPIO1, 4 GPIO2, 5 VCC, 6 SDO, 7 SDI, 8 SCLK, 9 nSEL, 10 nIRQ, 11 SDN, 12 GND, 13 GND, 14 ANT

## RS296
designator *
footprint RS296
pins: 1 GND, 2 GPIO0, 3 GPIO1, 4 GPIO2, 5 VCC, 6 SDO, 7 SDI, 8 SCLK, 9 nSEL, 10 nIRQ, 11 SDN, 12 GND, 13 GND, 14 ANT

## RT8008PB
designator U?
footprint SOT23-5
pins: 1 EN, 2 GND, 3 LX, 4 VIN, 5 PB

## RV
designator RV?, comment TVR10471V
Resistor; Value: 1K
footprint 0805
footprint RV7.5
footprint 1206
pins: 1, 2

## RX8025
designator U?, comment RX8025T-SA
footprint RX8025
pins: 1 NC, 2 SCL, 3 FOUT, 4 NC, 5 TEST, 6 VDD, 7 FOE, 8 NC, 9 NC, 10 INTA, 11 GND, 12 INTB, 13 SDA, 14 NC

## SCK054
designator NTC?
footprint NTC8X8 5.08
pins: 1, 2

## SD CARD
designator U?, comment SD_CARD
SD卡
footprint SDCARD(1)
pins: 1 CD/DAT3, 2 CMD, 3 VSS1, 4 VDD, 5 CLK, 6 VSS2, 7 DAT0, 8 DAT1, 9 DAT2, 10 WP, 11 nCD, 12 PAD1, 13 PAD2, 14 PAD3, 15 PAD4

## SD_NAND
designator U?
footprint LGA-8_L6.0-W8.0-P1.27-TL
pins: 1 SDD2, 2 SDD3, 3 SDCK, 4 GND, 5 CMD, 6 SDD0, 7 SDD1, 8 VCC

## SI2301
designator Q?, comment AO3401
footprint PMOS-SOT23-3
footprint MOS-SOT23-3
footprint ZSOT23-3
footprint ZSOT23-3
pins: 1, 2, 3

## SI2301_1
designator Q?, comment SI2301CDS
footprint PMOS-SOT23-3
footprint MOS-SOT23-3
footprint ZSOT23-3
footprint ZSOT23-3
pins: 1, 2, 3

## Si2301ADS
designator Q?
footprint SOT23-3
pins: 1 G, 2 D, 3 S

## Si2301ADS_1
designator Q2, comment Si2301ADS
footprint SOT23-3
pins: 1 G, 2 D, 3 S

## SIM
designator U?
footprint SIM-CARD
pins: 1 VDD, 2 RST, 3 CLK, 4 VSS, 5 NC, 6 DAT

## SIM68MB
designator U?
footprint SIM68MB
pins: 1 GND, 2 TXD0, 3 RXD0, 4 TIMEMARK, 5 EXTINT, 6 V_BACKUP, 7 NC, 8 VCC, 9 NRESET, 10 GND, 11 RF_IN, 12 GND, 13 ANTON, 14 VCC_RF, 15 NC, 16 TXD1/SDA, 17 RXD1/SCL, 18 NC

## SIM900B
designator U?
SIMCOM GPRS Module
footprint SIM900B
pins: 1 VBAT, 2 VBAT, 3 VBAT, 4 VBAT, 5 VBAT, 6 VBAT, 7 VBAT, 8 VBAT, 9 GND, 10 GND, 11 GND, 12 GND, 13 GND, 14 GND, 15 VRTC, 16 SIM_PRESENCE, 17 VDD_EXT, 18 DISP_DATA, 19 SIM_VDD, 20 DISP_CLK, 21 SIM_DATA, 22 DISP_CS, 23 SIM_CLK, 24 DISP_D/C, 25 SIM_RST, 26 DISP_RST, 27 KBC0, 28 DCD, 29 KBC1, 30 NETLIGHT, 31 KBC2, 32 GPIO0, 33 KBC3, 34 PWRKEY, 35 KBC4, 36 BUZZER, 37 KBR0, 38 DTR, 39 KBR1, 40 RXD, 41 KBR2, 42 TXD, 43 KBR3, 44 RTS, 45 KBR4, 46 CTS, 47 DBG_RXD, 48 RI, 49 DBG_TXD, 50 AGND, 51 AGND, 52 ADC0, 53 MIC1P, 54 SPK1P, 55 MIC1N, 56 SPK1N, 57 MIC2P, 58 SPK2P, 59 MIC2N, 60 SPK2N, F1 FASTNESS, F2 FASTNESS, F3 FASTNESS, F4 FASTNESS

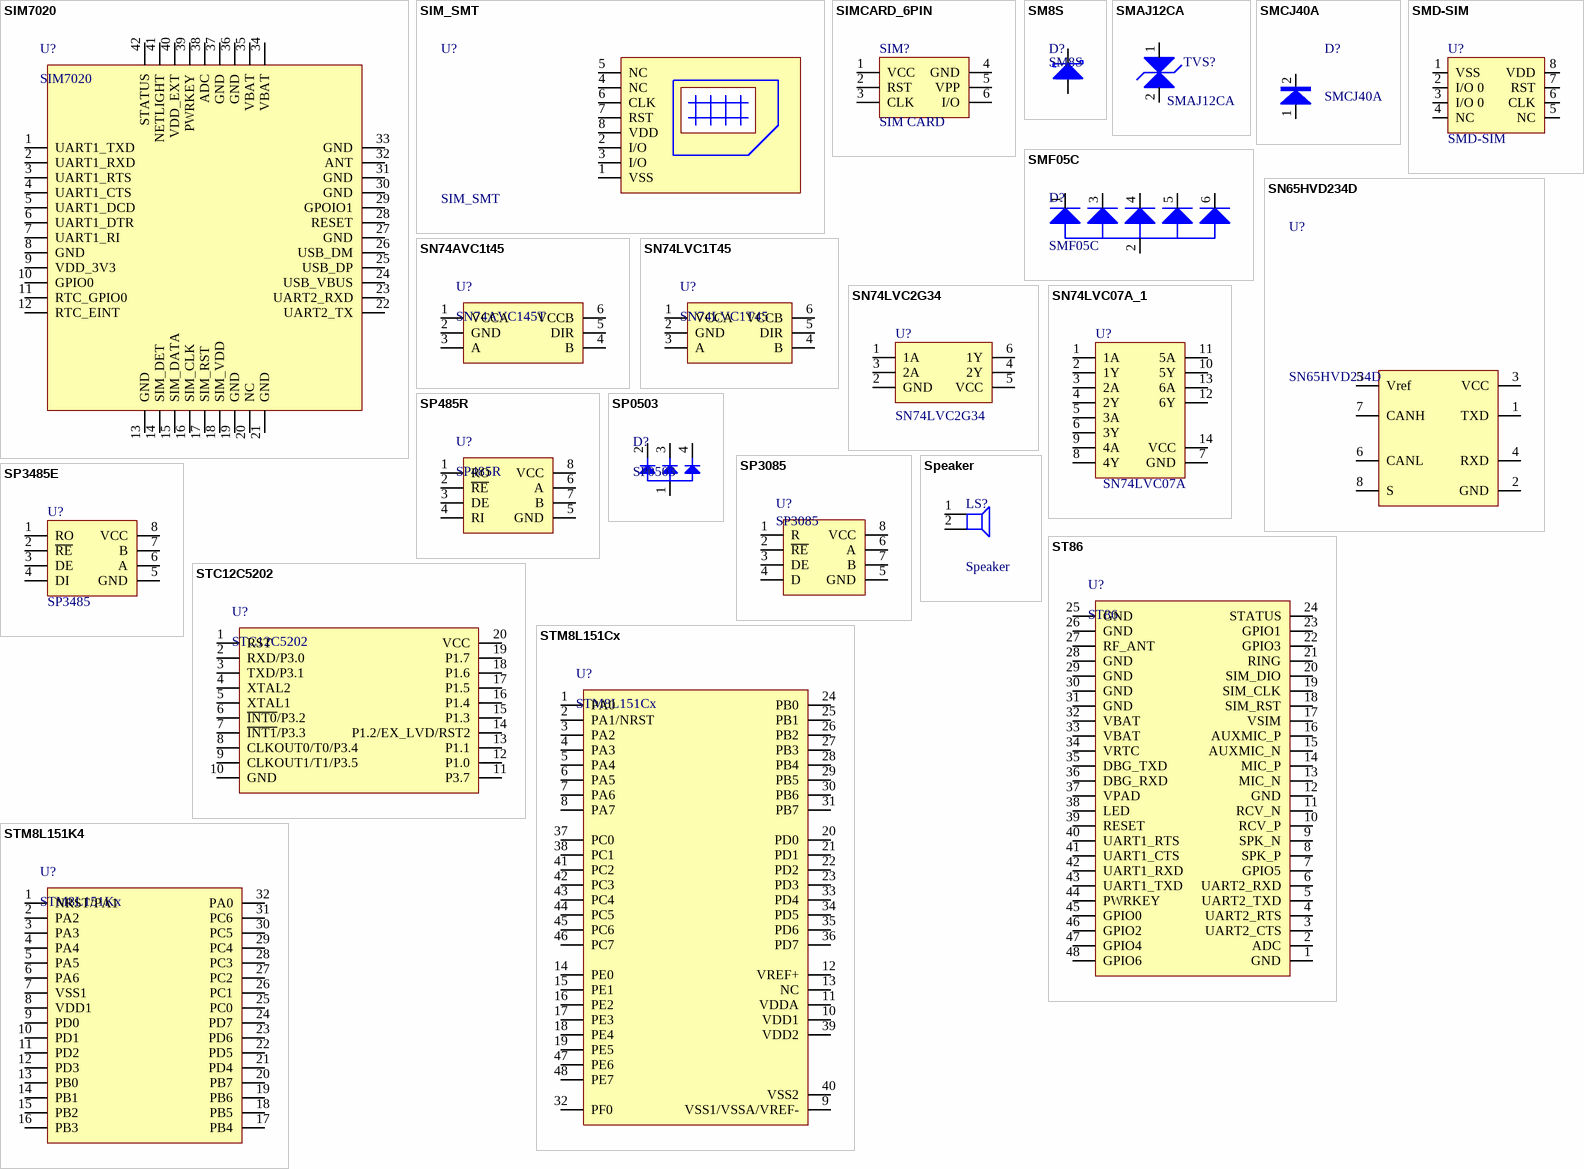
[diagram p13: symbols SIM7020 to STM8L151K4]

## SIM7020
designator U?
footprint SIM7020
pins: 1 UART1_TXD, 2 UART1_RXD, 3 UART1_RTS, 4 UART1_CTS, 5 UART1_DCD, 6 UART1_DTR, 7 UART1_RI, 8 GND, 9 VDD_3V3, 10 GPIO0, 11 RTC_GPIO0, 12 RTC_EINT, 13 GND, 14 SIM_DET, 15 SIM_DATA, 16 SIM_CLK, 17 SIM_RST, 18 SIM_VDD, 19 GND, 20 NC, 21 GND, 22 UART2_TX, 23 UART2_RXD, 24 USB_VBUS, 25 USB_DP, 26 USB_DM, 27 GND, 28 RESET, 29 GPOIO1, 30 GND, 31 GND, 32 ANT, 33 GND, 34 VBAT, 35 VBAT, 36 GND, 37 GND, 38 ADC, 39 PWRKEY, 40 VDD_EXT, 41 NETLIGHT, 42 STATUS

## SIM_SMT
designator U?
footprint SIM_SMT
pins: 1 VSS, 2 I/O, 3 I/O, 4 NC, 5 NC, 6 CLK, 7 RST, 8 VDD

## SIMCARD_6PIN
designator SIM?, comment SIM CARD
SIM-CARD-6F
footprint SIM-6-2
pins: 1 VCC, 2 RST, 3 CLK, 4 GND, 5 VPP, 6 I/O

## SM8S
designator D?
Schottky Diode
footprint SM8S-XXA (大?)
pins: 1 A, 2 K

## SMAJ12CA
designator TVS?
footprint Sma
pins: 1, 2

## SMCJ40A
designator D?
footprint SMCJ40A
pins: 1 A, 2 K

## SMD-SIM
designator U?
footprint QFN5*6-8
footprint SIM_SMD
pins: 1 VSS, 2 I/O 0, 3 I/O 0, 4 NC, 5 NC, 6 CLK, 7 RST, 8 VDD

## SMF05C
designator D?
High Conductance Fast Diode
footprint SOT23-6
pins: 1, 2, 3, 4, 5, 6

## SN65HVD234D
designator U?
footprint SO-8
pins: 1 TXD, 2 GND, 3 VCC, 4 RXD, 5 Vref, 6 CANL, 7 CANH, 8 S

## SN74AVC1t45
designator U?, comment SN74AVC145T
footprint SOT23-6
pins: 1 VCCA, 2 GND, 3 A, 4 B, 5 DIR, 6 VCCB

## SN74LVC1T45
designator U?
footprint SOT23-6
pins: 1 VCCA, 2 GND, 3 A, 4 B, 5 DIR, 6 VCCB

## SN74LVC2G34
designator U?
DUAL BUFFER GATE  SCES359H–AUGUST 2001–REVISED FEBRUARY 2007
footprint SOT23-6
pins: 1 1A, 2 GND, 3 2A, 4 2Y, 5 VCC, 6 1Y

## SN74LVC07A_1
designator U?, comment SN74LVC07A
HEX BUFFER/DRIVER WITH OPEN-DRAIN OUTPUTS
footprint SO-14
pins: 1 1A, 2 1Y, 3 2A, 4 2Y, 5 3A, 6 3Y, 7 GND, 8 4Y, 9 4A, 10 5Y, 11 5A, 12 6Y, 13 6A, 14 VCC

## SP485R
designator U?
footprint SO-8
pins: 1 RO, 2 ~{RE}, 3 DE, 4 RI, 5 GND, 6 A, 7 B, 8 VCC

## SP0503
designator D?
footprint SOT-143
pins: 1 GND, 2, 3, 4

## SP3085
designator U?
RS3085
footprint SO-8
pins: 1 R, 2 ~{RE}, 3 DE, 4 D, 5 GND, 6 A, 7 B, 8 VCC

## SP3485E
designator U?, comment SP3485
+3.3V Half-duplex RS-485 Transceivers
footprint SO-8
pins: 1 RO, 2 ~{RE}, 3 DE, 4 DI, 5 GND, 6 A, 7 B, 8 VCC

## Speaker
designator LS?
Loudspeaker
footprint Speaker (12mm x 12mm x 10)
pins: 1, 2

## ST86
designator U?
footprint ST86
pins: 1 GND, 2 ADC, 3 UART2_CTS, 4 UART2_RTS, 5 UART2_TXD, 6 UART2_RXD, 7 GPIO5, 8 SPK_P, 9 SPK_N, 10 RCV_P, 11 RCV_N, 12 GND, 13 MIC_N, 14 MIC_P, 15 AUXMIC_N, 16 AUXMIC_P, 17 VSIM, 18 SIM_RST, 19 SIM_CLK, 20 SIM_DIO, 21 RING, 22 GPIO3, 23 GPIO1, 24 STATUS, 25 GND, 26 GND, 27 RF_ANT, 28 GND, 29 GND, 30 GND, 31 GND, 32 VBAT, 33 VBAT, 34 VRTC, 35 DBG_TXD, 36 DBG_RXD, 37 VPAD, 38 LED, 39 RESET, 40 UART1_RTS, 41 UART1_CTS, 42 UART1_RXD, 43 UART1_TXD, 44 PWRKEY, 45 GPIO0, 46 GPIO2, 47 GPIO4, 48 GPIO6

## STC12C5202
designator U?
宏晶51系列单片机
pins: 1 RST, 2 RXD/P3.0, 3 TXD/P3.1, 4 XTAL2, 5 XTAL1, 6 ~{INT0}/P3.2, 7 ~{INT1}/P3.3, 8 CLKOUT0/T0/P3.4, 9 CLKOUT1/T1/P3.5, 10 GND, 11 P3.7, 12 P1.0, 13 P1.1, 14 P1.2/EX_LVD/RST2, 15 P1.3, 16 P1.4, 17 P1.5, 18 P1.6, 19 P1.7, 20 VCC

## STM8L151Cx
designator U?
footprint TQFP-48
pins: 1 PA0, 2 PA1/NRST, 3 PA2, 4 PA3, 5 PA4, 6 PA5, 7 PA6, 8 PA7, 9 VSS1/VSSA/VREF-, 10 VDD1, 11 VDDA, 12 VREF+, 13 NC, 14 PE0, 15 PE1, 16 PE2, 17 PE3, 18 PE4, 19 PE5, 20 PD0, 21 PD1, 22 PD2, 23 PD3, 24 PB0, 25 PB1, 26 PB2, 27 PB3, 28 PB4, 29 PB5, 30 PB6, 31 PB7, 32 PF0, 33 PD4, 34 PD5, 35 PD6, 36 PD7, 37 PC0, 38 PC1, 39 VDD2, 40 VSS2, 41 PC2, 42 PC3, 43 PC4, 44 PC5, 45 PC6, 46 PC7, 47 PE6, 48 PE7

## STM8L151K4
designator U?, comment STM8L151Kx
8-bit ultra-low-power MCU, up to 32 KB Flash, 1 KB Data EEPROM, RTC, LCD, timers, USART, I2C, SPI, ADC, DAC, comparators
footprint TQFP-32 (Thin QFP, 32-Leads, Body 7x7mm, Pitch 0.8mm, IPC Low Density)
pins: 1 NRST/PA1, 2 PA2, 3 PA3, 4 PA4, 5 PA5, 6 PA6, 7 VSS1, 8 VDD1, 9 PD0, 10 PD1, 11 PD2, 12 PD3, 13 PB0, 14 PB1, 15 PB2, 16 PB3, 17 PB4, 18 PB5, 19 PB6, 20 PB7, 21 PD4, 22 PD5, 23 PD6, 24 PD7, 25 PC0, 26 PC1, 27 PC2, 28 PC3, 29 PC4, 30 PC5, 31 PC6, 32 PA0

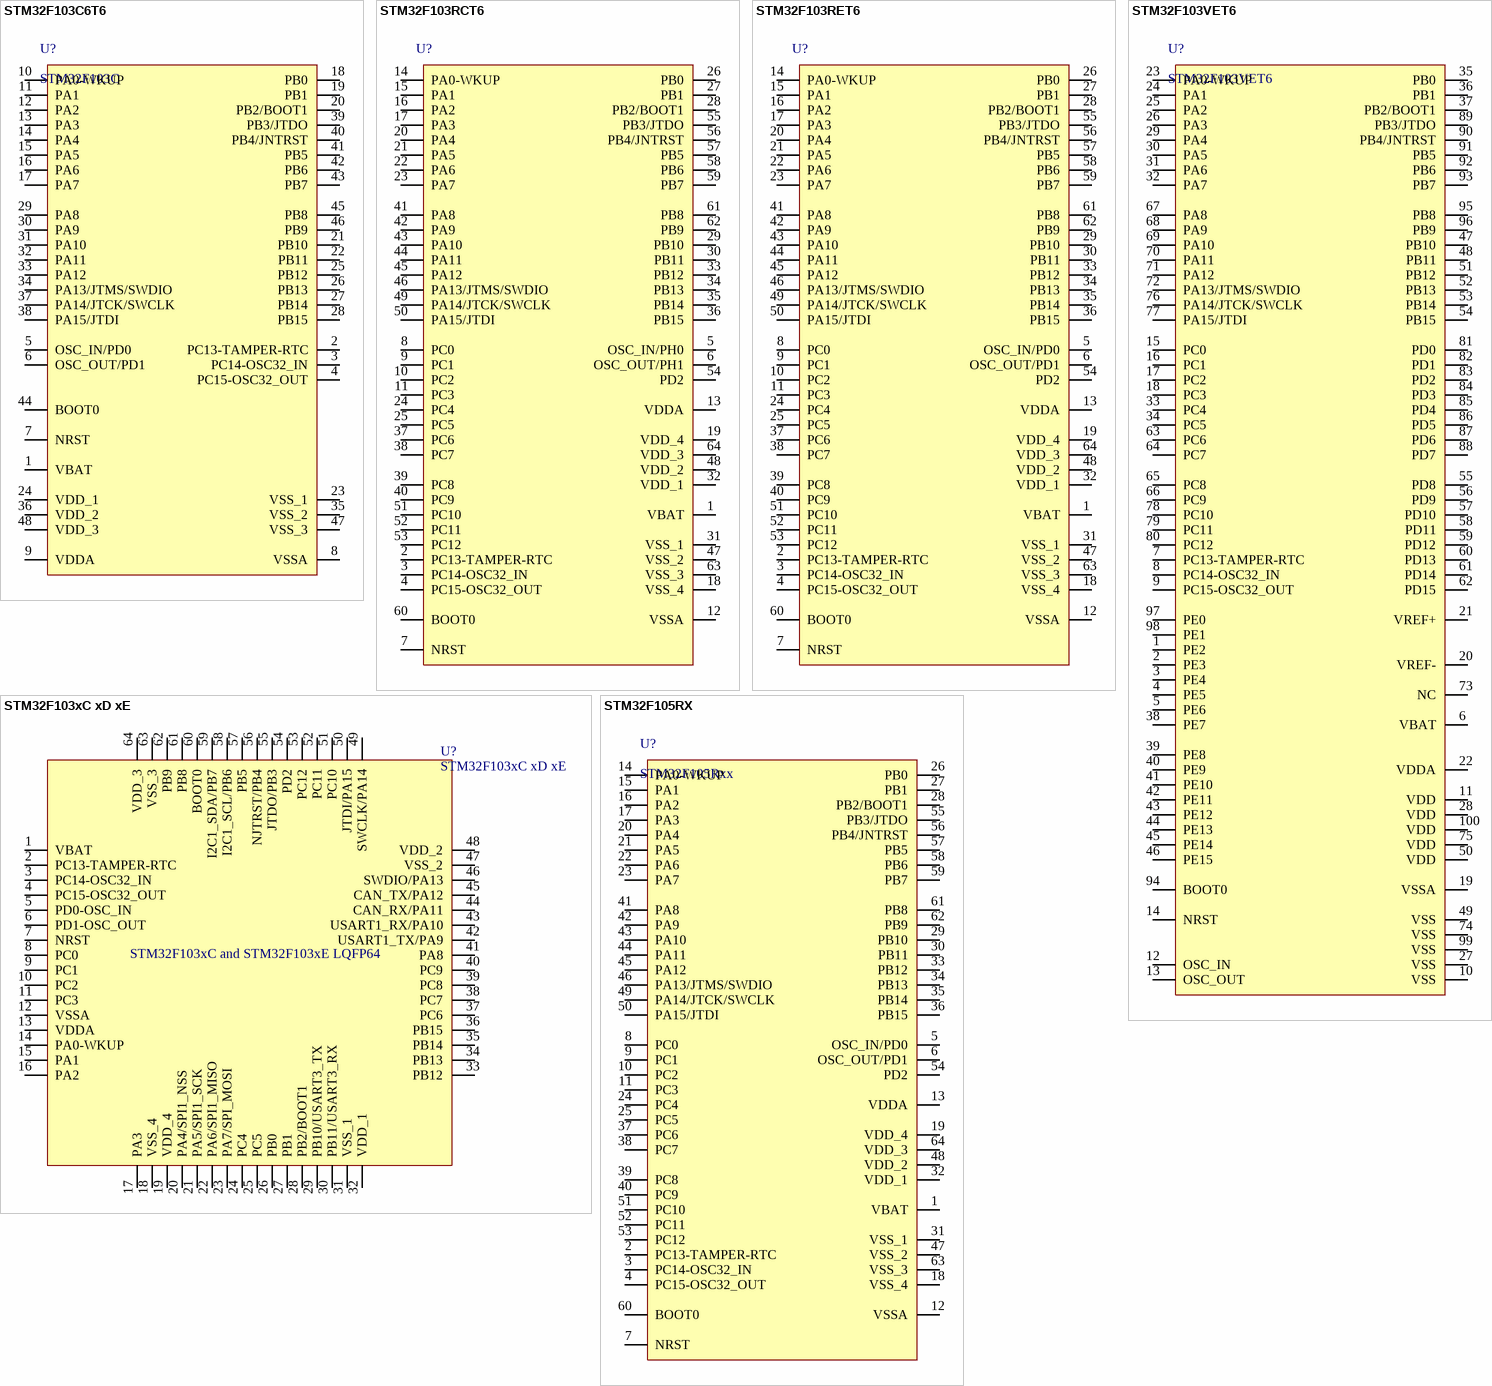
[diagram p14: symbols STM32F103C6T6 to STM32F105RX]

## STM32F103C6T6
designator U?, comment STM32F103C
STM32 ARM-based 32-bit MCU with 32 Kbytes Flash, 48-pin LQFP, Industrial Temperature
footprint TQFP-48
pins: 1 VBAT, 2 PC13-TAMPER-RTC, 3 PC14-OSC32_IN, 4 PC15-OSC32_OUT, 5 OSC_IN/PD0, 6 OSC_OUT/PD1, 7 NRST, 8 VSSA, 9 VDDA, 10 PA0-WKUP, 11 PA1, 12 PA2, 13 PA3, 14 PA4, 15 PA5, 16 PA6, 17 PA7, 18 PB0, 19 PB1, 20 PB2/BOOT1, 21 PB10, 22 PB11, 23 VSS_1, 24 VDD_1, 25 PB12, 26 PB13, 27 PB14, 28 PB15, 29 PA8, 30 PA9, 31 PA10, 32 PA11, 33 PA12, 34 PA13/JTMS/SWDIO, 35 VSS_2, 36 VDD_2, 37 PA14/JTCK/SWCLK, 38 PA15/JTDI, 39 PB3/JTDO, 40 PB4/JNTRST, 41 PB5, 42 PB6, 43 PB7, 44 BOOT0, 45 PB8, 46 PB9, 47 VSS_3, 48 VDD_3

## STM32F103RCT6
designator U?
STM32 ARM-based 32-bit MCU with 128 Kbytes Flash, 64-pin LQFP, Industrial Temperature
footprint TQFP-64 (Thin QFP, 64-Leads, Body 10x10mm, Pitch 0.5mm, IPC Low Density)
pins: 1 VBAT, 2 PC13-TAMPER-RTC, 3 PC14-OSC32_IN, 4 PC15-OSC32_OUT, 5 OSC_IN/PH0, 6 OSC_OUT/PH1, 7 NRST, 8 PC0 (hiz), 9 PC1, 10 PC2, 11 PC3, 12 VSSA, 13 VDDA, 14 PA0-WKUP, 15 PA1, 16 PA2, 17 PA3, 18 VSS_4, 19 VDD_4, 20 PA4, 21 PA5, 22 PA6, 23 PA7, 24 PC4, 25 PC5, 26 PB0, 27 PB1, 28 PB2/BOOT1, 29 PB10, 30 PB11, 31 VSS_1, 32 VDD_1, 33 PB12, 34 PB13, 35 PB14, 36 PB15, 37 PC6, 38 PC7, 39 PC8, 40 PC9, 41 PA8, 42 PA9, 43 PA10, 44 PA11, 45 PA12, 46 PA13/JTMS/SWDIO, 47 VSS_2, 48 VDD_2, 49 PA14/JTCK/SWCLK, 50 PA15/JTDI, 51 PC10, 52 PC11, 53 PC12, 54 PD2, 55 PB3/JTDO, 56 PB4/JNTRST, 57 PB5, 58 PB6, 59 PB7, 60 BOOT0, 61 PB8, 62 PB9, 63 VSS_3, 64 VDD_3

## STM32F103RET6
designator U?
STM32 ARM-based 32-bit MCU with 128 Kbytes Flash, 64-pin LQFP, Industrial Temperature
footprint TQFP-64 (Thin QFP, 64-Leads, Body 10x10mm, Pitch 0.5mm, IPC Low Density)
pins: 1 VBAT, 2 PC13-TAMPER-RTC, 3 PC14-OSC32_IN, 4 PC15-OSC32_OUT, 5 OSC_IN/PD0, 6 OSC_OUT/PD1, 7 NRST, 8 PC0 (hiz), 9 PC1, 10 PC2, 11 PC3, 12 VSSA, 13 VDDA, 14 PA0-WKUP, 15 PA1, 16 PA2, 17 PA3, 18 VSS_4, 19 VDD_4, 20 PA4, 21 PA5, 22 PA6, 23 PA7, 24 PC4, 25 PC5, 26 PB0, 27 PB1, 28 PB2/BOOT1, 29 PB10, 30 PB11, 31 VSS_1, 32 VDD_1, 33 PB12, 34 PB13, 35 PB14, 36 PB15, 37 PC6, 38 PC7, 39 PC8, 40 PC9, 41 PA8, 42 PA9, 43 PA10, 44 PA11, 45 PA12, 46 PA13/JTMS/SWDIO, 47 VSS_2, 48 VDD_2, 49 PA14/JTCK/SWCLK, 50 PA15/JTDI, 51 PC10, 52 PC11, 53 PC12, 54 PD2, 55 PB3/JTDO, 56 PB4/JNTRST, 57 PB5, 58 PB6, 59 PB7, 60 BOOT0, 61 PB8, 62 PB9, 63 VSS_3, 64 VDD_3

## STM32F103VET6
designator U?
STM32 ARM-based 32-bit MCU with 64 Kbytes Flash, 100-pin LQFP, Industrial Temperature; Published: 30-May-2008; DatasheetVersion: rev6, Mar-2008; PackageVersion: Mar-2008; PackageReference: LQFP100; Publisher: Altium Limited; PackageDescription: 100-Pin Low-Profile Quad Flat Pack, 14 x 14 mm Body, 0.5 mm Pitch (LQFP100); ComponentLink1Description: Manufacturer Link; ComponentLink1URL: www.st.com/stm32; ComponentLink2Description: Datasheet; ComponentLink2URL: http://www.st.com/stonline/products/literature/ds/13587.pdf
footprint TQFP-100
pins: 1 PE2, 2 PE3, 3 PE4, 4 PE5, 5 PE6, 6 VBAT, 7 PC13-TAMPER-RTC, 8 PC14-OSC32_IN, 9 PC15-OSC32_OUT, 10 VSS, 11 VDD, 12 OSC_IN, 13 OSC_OUT, 14 NRST, 15 PC0, 16 PC1, 17 PC2, 18 PC3, 19 VSSA, 20 VREF-, 21 VREF+, 22 VDDA, 23 PA0-WKUP, 24 PA1, 25 PA2, 26 PA3, 27 VSS, 28 VDD, 29 PA4, 30 PA5, 31 PA6, 32 PA7, 33 PC4, 34 PC5, 35 PB0, 36 PB1, 37 PB2/BOOT1, 38 PE7, 39 PE8, 40 PE9, 41 PE10, 42 PE11, 43 PE12, 44 PE13, 45 PE14, 46 PE15, 47 PB10, 48 PB11, 49 VSS, 50 VDD, 51 PB12, 52 PB13, 53 PB14, 54 PB15, 55 PD8, 56 PD9, 57 PD10, 58 PD11, 59 PD12, 60 PD13, 61 PD14, 62 PD15, 63 PC6, 64 PC7, 65 PC8, 66 PC9, 67 PA8, 68 PA9, 69 PA10, 70 PA11, 71 PA12, 72 PA13/JTMS/SWDIO, 73 NC, 74 VSS, 75 VDD, 76 PA14/JTCK/SWCLK, 77 PA15/JTDI, 78 PC10, 79 PC11, 80 PC12, 81 PD0, 82 PD1, 83 PD2, 84 PD3, 85 PD4, 86 PD5, 87 PD6, 88 PD7, 89 PB3/JTDO, 90 PB4/JNTRST, 91 PB5, 92 PB6, 93 PB7, 94 BOOT0, 95 PB8, 96 PB9, 97 PE0, 98 PE1, 99 VSS, 100 VDD

## STM32F103xC xD xE
designator U?
footprint TQFP-64 (Thin QFP, 64-Leads, Body 10x10mm, Pitch 0.5mm, IPC Low Density)
pins: 1 VBAT, 2 PC13-TAMPER-RTC, 3 PC14-OSC32_IN, 4 PC15-OSC32_OUT, 5 PD0-OSC_IN, 6 PD1-OSC_OUT, 7 NRST, 8 PC0, 9 PC1, 10 PC2, 11 PC3, 12 VSSA, 13 VDDA, 14 PA0-WKUP, 15 PA1, 16 PA2, 17 PA3, 18 VSS_4, 19 VDD_4, 20 PA4/SPI1_NSS, 21 PA5/SPI1_SCK, 22 PA6/SPI1_MISO, 23 PA7/SPI_MOSI, 24 PC4, 25 PC5, 26 PB0, 27 PB1, 28 PB2/BOOT1, 29 PB10/USART3_TX, 30 PB11/USART3_RX, 31 VSS_1, 32 VDD_1, 33 PB12, 34 PB13, 35 PB14, 36 PB15, 37 PC6, 38 PC7, 39 PC8, 40 PC9, 41 PA8, 42 USART1_TX/PA9, 43 USART1_RX/PA10, 44 CAN_RX/PA11, 45 CAN_TX/PA12, 46 SWDIO/PA13, 47 VSS_2, 48 VDD_2, 49 SWCLK/PA14, 50 JTDI/PA15, 51 PC10, 52 PC11, 53 PC12, 54 PD2, 55 JTDO/PB3, 56 NJTRST/PB4, 57 PB5, 58 I2C1_SCL/PB6, 59 I2C1_SDA/PB7, 60 BOOT0, 61 PB8, 62 PB9, 63 VSS_3, 64 VDD_3
text: STM32F103xC and STM32F103xE LQFP64

## STM32F105RX
designator U?, comment STM32F105Rxx
STM32 ARM-based 32-bit MCU with 128 Kbytes Flash, 64-pin LQFP, Industrial Temperature
footprint TQFP-64 (Thin QFP, 64-Leads, Body 10x10mm, Pitch 0.5mm, IPC Low Density)
pins: 1 VBAT, 2 PC13-TAMPER-RTC, 3 PC14-OSC32_IN, 4 PC15-OSC32_OUT, 5 OSC_IN/PD0, 6 OSC_OUT/PD1, 7 NRST, 8 PC0 (hiz), 9 PC1, 10 PC2, 11 PC3, 12 VSSA, 13 VDDA, 14 PA0-WKUP, 15 PA1, 16 PA2, 17 PA3, 18 VSS_4, 19 VDD_4, 20 PA4, 21 PA5, 22 PA6, 23 PA7, 24 PC4, 25 PC5, 26 PB0, 27 PB1, 28 PB2/BOOT1, 29 PB10, 30 PB11, 31 VSS_1, 32 VDD_1, 33 PB12, 34 PB13, 35 PB14, 36 PB15, 37 PC6, 38 PC7, 39 PC8, 40 PC9, 41 PA8, 42 PA9, 43 PA10, 44 PA11, 45 PA12, 46 PA13/JTMS/SWDIO, 47 VSS_2, 48 VDD_2, 49 PA14/JTCK/SWCLK, 50 PA15/JTDI, 51 PC10, 52 PC11, 53 PC12, 54 PD2, 55 PB3/JTDO, 56 PB4/JNTRST, 57 PB5, 58 PB6, 59 PB7, 60 BOOT0, 61 PB8, 62 PB9, 63 VSS_3, 64 VDD_3

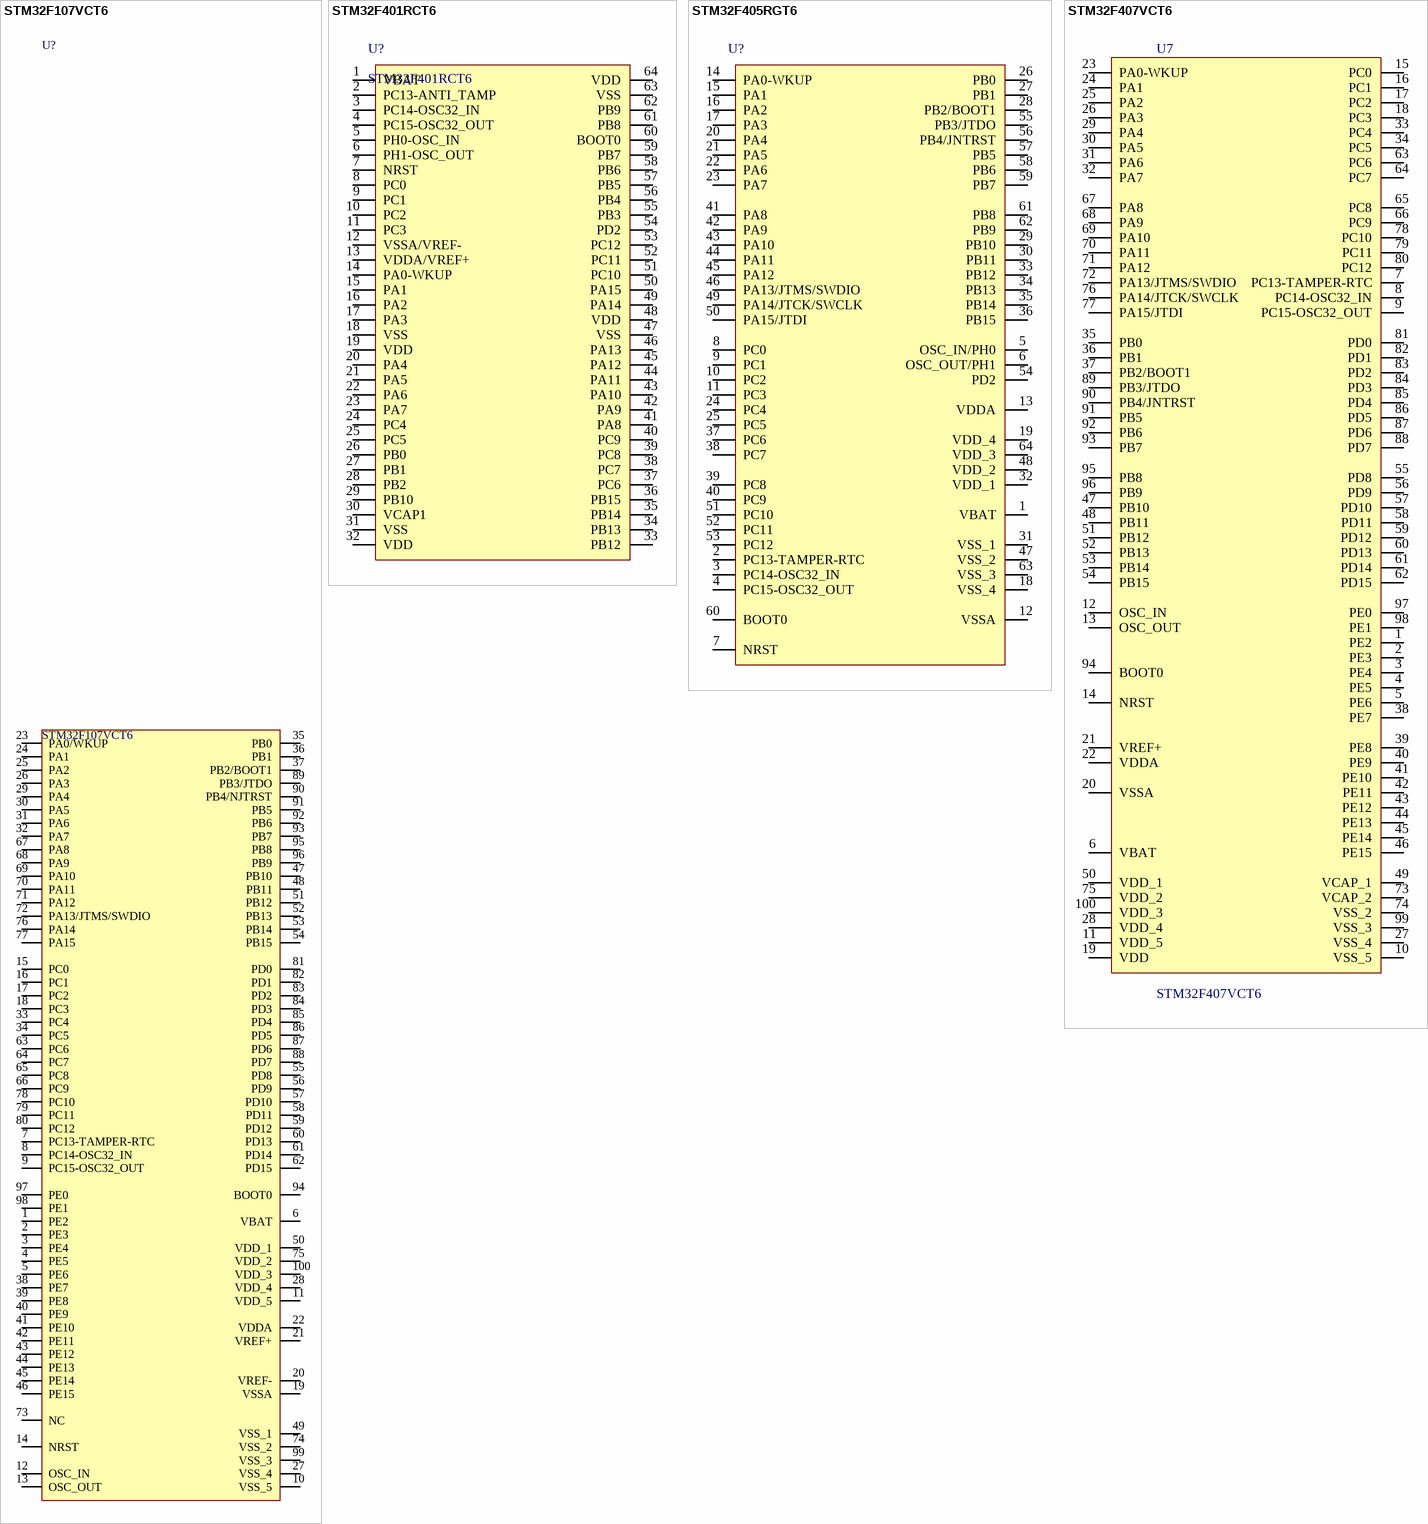
[diagram p15: symbols STM32F107VCT6 to STM32F407VCT6]

## STM32F107VCT6
designator U?
Connectivity line, ARM?-based 32-bit MCU with 64/256 KB Flash, USBOTG, Ethernet, 10 timers, 2 CANs, 2 ADCs, 14 communication interfaces
footprint TQFP-100
pins: 1 PE2, 2 PE3, 3 PE4, 4 PE5, 5 PE6, 6 VBAT, 7 PC13-TAMPER-RTC, 8 PC14-OSC32_IN, 9 PC15-OSC32_OUT, 10 VSS_5, 11 VDD_5, 12 OSC_IN, 13 OSC_OUT, 14 NRST, 15 PC0, 16 PC1, 17 PC2, 18 PC3, 19 VSSA, 20 VREF-, 21 VREF+, 22 VDDA, 23 PA0/WKUP, 24 PA1, 25 PA2, 26 PA3, 27 VSS_4, 28 VDD_4, 29 PA4, 30 PA5, 31 PA6, 32 PA7, 33 PC4, 34 PC5, 35 PB0, 36 PB1, 37 PB2/BOOT1, 38 PE7, 39 PE8, 40 PE9, 41 PE10, 42 PE11, 43 PE12, 44 PE13, 45 PE14, 46 PE15, 47 PB10, 48 PB11, 49 VSS_1, 50 VDD_1, 51 PB12, 52 PB13, 53 PB14, 54 PB15, 55 PD8, 56 PD9, 57 PD10, 58 PD11, 59 PD12, 60 PD13, 61 PD14, 62 PD15, 63 PC6, 64 PC7, 65 PC8, 66 PC9, 67 PA8, 68 PA9, 69 PA10, 70 PA11, 71 PA12, 72 PA13/JTMS/SWDIO, 73 NC, 74 VSS_2, 75 VDD_2, 76 PA14, 77 PA15, 78 PC10, 79 PC11, 80 PC12, 81 PD0, 82 PD1, 83 PD2, 84 PD3, 85 PD4, 86 PD5, 87 PD6, 88 PD7, 89 PB3/JTDO, 90 PB4/NJTRST, 91 PB5, 92 PB6, 93 PB7, 94 BOOT0, 95 PB8, 96 PB9, 97 PE0, 98 PE1, 99 VSS_3, 100 VDD_3

## STM32F401RCT6
designator U?
ARM Cortex-M4 32-bit MCU+FPU, 105 DMIPS, 256 kB Flash, 64 kB Internal RAM, 48 I/Os, 64-pin LQFP, -40 to 85 degC, Tray
footprint TQFP-64 (Thin QFP, 64-Leads, Body 10x10mm, Pitch 0.5mm, IPC Low Density)
pins: 1 VBAT, 2 PC13-ANTI_TAMP "PC13-ANTI_TAMP/TAMP_1", 3 PC14-OSC32_IN "PC14-OSC32_IN/OSC32_IN", 4 PC15-OSC32_OUT "PC15-OSC32_OUT/OSC32_OUT", 5 PH0-OSC_IN "PH0-OSC_IN/OSC_IN", 6 PH1-OSC_OUT "PH1-OSC_OUT/OSC_OUT", 7 NRST, 8 PC0 "PC0/ADC1_10", 9 PC1 "PC1/ADC1_11", 10 PC2 "PC2/SPI2_MISO,I2S2ext_SD/ADC1_12", 11 PC3 "PC3/SPI2_MOSI/I2S2_SD/ADC1_13", 12 VSSA/VREF-, 13 VDDA/VREF+, 14 PA0-WKUP "PA0-WKUP/USART2_CTS,TIM2_CH1/TIM2_ETR,TIM5_CH1/ADC1_0,WKUP", 15 PA1 "PA1/USART2_RTS,TIM2_CH2,TIM5_CH2/ADC1_1", 16 PA2 "PA2/USART2_TX,TIM2_CH3,TIM5_CH3,TIM9_CH1/ADC1_2", 17 PA3 "PA3/USART2_RX,TIM2_CH4,TIM5_CH4,TIM9_CH2/ADC1_3", 18 VSS, 19 VDD, 20 PA4 "PA4/SPI1_NSS,SPI3_NSS/I2S3_WS,USART2_CK/ADC1_4", 21 PA5 "PA5/SPI1_SCK,TIM2_CH1/TIM2_ETR/ADC1_5", 22 PA6 "PA6/SPI1_MISO,TIM1_BKIN,TIM3_CH1/ADC1_6", 23 PA7 "PA7/SPI1_MOSI,TIM1_CH1N,TIM3_CH2/ADC1_7", 24 PC4 "PC4/ADC1_14", 25 PC5 "PC5/ADC1_15", 26 PB0 "PB0/TIM1_CH2N,TIM3_CH3/ADC1_8", 27 PB1 "PB1/TIM1_CH3N,TIM3_CH4/ADC1_9", 28 PB2, 29 PB10 "PB10/SPI2_SCK/I2S2_CK,I2C2_SCL,TIM2_CH3", 30 VCAP1, 31 VSS, 32 VDD, 33 PB12 "PB12/SPI2_NSS/I2S2_WS,I2C2_SMBAL,TIM1_BKIN", 34 PB13 "PB13/SPI2_SCK/I2S2_CK,TIM1_CH1N", 35 PB14 "PB14/SPI2_MISO,I2S2ext_SD,TIM1_CH2N", 36 PB15 "PB15/SPI2_MOSI/I2S2_SD,TIM1_CH3N,RTC_50Hz", 37 PC6 "PC6/I2S2_MCK,USART6_TX,TIM3_CH1,SDIO_D6", 38 PC7 "PC7/I2S3_MCK,USART6_RX,TIM3_CH2,SDIO_D7", 39 PC8 "PC8/USART6_CK,TIM3_CH3,SDIO_D0", 40 PC9 "PC9/I2S2_CKIN,I2C3_SDA,TIM3_CH4,SDIO_D1,MCO_2", 41 PA8 "PA8/I2C3_SCL,USART1_CK,TIM1_CH1,USB_FS_SOF,MCO_1", 42 PA9 "PA9/I2C3_SMBAL,USART1_TX,TIM1_CH2,USB_FS_VBUS", 43 PA10 "PA10/USART1_RX,TIM1_CH3,USB_FS_ID", 44 PA11 "PA11/USART1_CTS,USART6_TX,TIM1_CH4,USB_FS_DM", 45 PA12 "PA12/USART1_RTS,USART6_RX,TIM1_ETR,USB_FS_DP", 46 PA13 "PA13/JTMS-SWDIO", 47 VSS, 48 VDD, 49 PA14 "PA14/JTCK-SWCLK", 50 PA15 "PA15/SPI1_NSS,SPI3_NSS/I2S3_WS,TIM2_CH1/TIM2_ETR,JTDI", 51 PC10 "PC10/SPI3_SCK/I2S3_CK,SDIO_D2", 52 PC11 "PC11/I2S3ext_SD,SPI3_MISO,SDIO_D3", 53 PC12 "PC12/SPI3_MOSI/I2S3_SD,SDIO_CK", 54 PD2 "PD2/TIM3_ETR,SDIO_CMD", 55 PB3 "PB3/SPI1_SCK,SPI3_SCK/I2S3_CK,I2C2_SDA,TIM2_CH2,JTDO-SWO", 56 PB4 "PB4/SPI1_MISO,SPI3_MISO,I2S3ext_SD,I2C3_SDA,TIM3_CH1,JTRST", 57 PB5 "PB5/SPI1_MOSI,SPI3_MOSI/I2S3_SD,I2C1_SMBAL,TIM3_CH2", 58 PB6 "PB6/I2C1_SCL,USART1_TX,TIM4_CH1", 59 PB7 "PB7/I2C1_SDA,USART1_RX,TIM4_CH2", 60 BOOT0, 61 PB8 "PB8/I2C1_SCL,TIM4_CH3,TIM10_CH1,SDIO_D4", 62 PB9 "PB9/SPI2_NSS/I2S2_WS,I2C1_SDA,TIM4_CH4,TIM11_CH1,SDIO_D5", 63 VSS, 64 VDD

## STM32F405RGT6
designator U?
STM32 ARM-based 32-bit MCU with 128 Kbytes Flash, 64-pin LQFP, Industrial Temperature
footprint TQFP-64 (Thin QFP, 64-Leads, Body 10x10mm, Pitch 0.5mm, IPC Low Density)
pins: 1 VBAT, 2 PC13-TAMPER-RTC, 3 PC14-OSC32_IN, 4 PC15-OSC32_OUT, 5 OSC_IN/PH0, 6 OSC_OUT/PH1, 7 NRST, 8 PC0 (hiz), 9 PC1, 10 PC2, 11 PC3, 12 VSSA, 13 VDDA, 14 PA0-WKUP, 15 PA1, 16 PA2, 17 PA3, 18 VSS_4, 19 VDD_4, 20 PA4, 21 PA5, 22 PA6, 23 PA7, 24 PC4, 25 PC5, 26 PB0, 27 PB1, 28 PB2/BOOT1, 29 PB10, 30 PB11, 31 VSS_1, 32 VDD_1, 33 PB12, 34 PB13, 35 PB14, 36 PB15, 37 PC6, 38 PC7, 39 PC8, 40 PC9, 41 PA8, 42 PA9, 43 PA10, 44 PA11, 45 PA12, 46 PA13/JTMS/SWDIO, 47 VSS_2, 48 VDD_2, 49 PA14/JTCK/SWCLK, 50 PA15/JTDI, 51 PC10, 52 PC11, 53 PC12, 54 PD2, 55 PB3/JTDO, 56 PB4/JNTRST, 57 PB5, 58 PB6, 59 PB7, 60 BOOT0, 61 PB8, 62 PB9, 63 VSS_3, 64 VDD_3

## STM32F407VCT6
designator U7
footprint TQFP-100
pins: 1 PE2, 2 PE3, 3 PE4, 4 PE5, 5 PE6, 6 VBAT (power), 7 PC13-TAMPER-RTC, 8 PC14-OSC32_IN, 9 PC15-OSC32_OUT, 10 VSS_5 (power), 11 VDD_5 (power), 12 OSC_IN, 13 OSC_OUT, 14 NRST, 15 PC0, 16 PC1, 17 PC2, 18 PC3, 19 VDD (power), 20 VSSA (power), 21 VREF+ (power), 22 VDDA (power), 23 PA0-WKUP, 24 PA1, 25 PA2, 26 PA3, 27 VSS_4 (power), 28 VDD_4 (power), 29 PA4, 30 PA5, 31 PA6, 32 PA7, 33 PC4, 34 PC5, 35 PB0, 36 PB1, 37 PB2/BOOT1, 38 PE7, 39 PE8, 40 PE9, 41 PE10, 42 PE11, 43 PE12, 44 PE13, 45 PE14, 46 PE15, 47 PB10, 48 PB11, 49 VCAP_1 (power), 50 VDD_1 (power), 51 PB12, 52 PB13, 53 PB14, 54 PB15, 55 PD8, 56 PD9, 57 PD10, 58 PD11, 59 PD12, 60 PD13, 61 PD14, 62 PD15, 63 PC6, 64 PC7, 65 PC8, 66 PC9, 67 PA8, 68 PA9, 69 PA10, 70 PA11, 71 PA12, 72 PA13/JTMS/SWDIO, 73 VCAP_2, 74 VSS_2 (power), 75 VDD_2 (power), 76 PA14/JTCK/SWCLK, 77 PA15/JTDI, 78 PC10, 79 PC11, 80 PC12, 81 PD0, 82 PD1, 83 PD2, 84 PD3, 85 PD4, 86 PD5, 87 PD6, 88 PD7, 89 PB3/JTDO, 90 PB4/JNTRST, 91 PB5, 92 PB6, 93 PB7, 94 BOOT0, 95 PB8, 96 PB9, 97 PE0, 98 PE1, 99 VSS_3 (power), 100 VDD_3 (power)

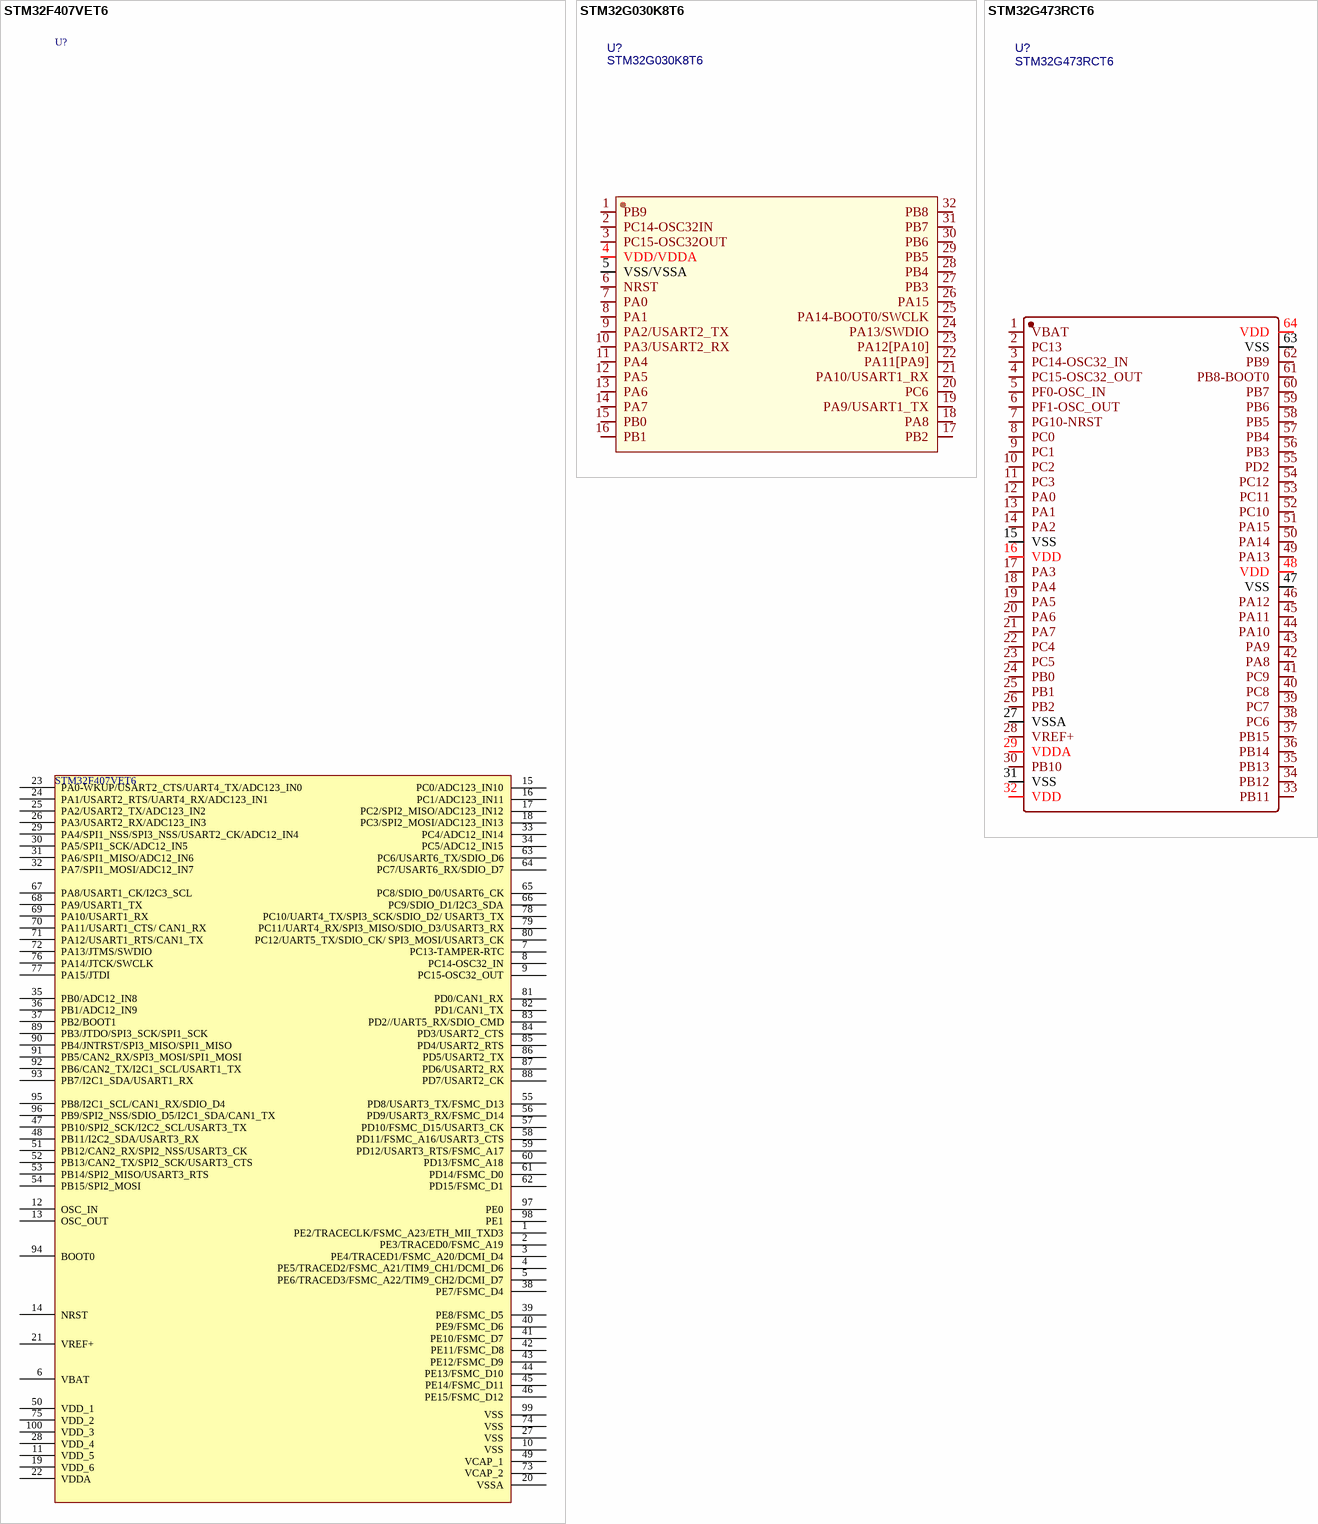
[diagram p16: symbols STM32F407VET6 to STM32G473RCT6]

## STM32F407VET6
designator U?
footprint STM-LQFP100_M (Thin QFP, 100-Leads, Body 14x14mm, Pitch 0.5mm, IPC Low Density)
pins: 1 PE2/TRACECLK/FSMC_A23/ETH_MII_TXD3, 2 PE3/TRACED0/FSMC_A19, 3 PE4/TRACED1/FSMC_A20/DCMI_D4, 4 PE5/TRACED2/FSMC_A21/TIM9_CH1/DCMI_D6, 5 PE6/TRACED3/FSMC_A22/TIM9_CH2/DCMI_D7, 6 VBAT, 7 PC13-TAMPER-RTC, 8 PC14-OSC32_IN, 9 PC15-OSC32_OUT, 10 VSS, 11 VDD_5, 12 OSC_IN, 13 OSC_OUT, 14 NRST, 15 PC0/ADC123_IN10, 16 PC1/ADC123_IN11, 17 PC2/SPI2_MISO/ADC123_IN12, 18 PC3/SPI2_MOSI/ADC123_IN13, 19 VDD_6, 20 VSSA (power), 21 VREF+, 22 VDDA, 23 PA0-WKUP/USART2_CTS/UART4_TX/ADC123_IN0, 24 PA1/USART2_RTS/UART4_RX/ADC123_IN1, 25 PA2/USART2_TX/ADC123_IN2, 26 PA3/USART2_RX/ADC123_IN3, 27 VSS, 28 VDD_4, 29 PA4/SPI1_NSS/SPI3_NSS/USART2_CK/ADC12_IN4, 30 PA5/SPI1_SCK/ADC12_IN5, 31 PA6/SPI1_MISO/ADC12_IN6, 32 PA7/SPI1_MOSI/ADC12_IN7, 33 PC4/ADC12_IN14, 34 PC5/ADC12_IN15, 35 PB0/ADC12_IN8, 36 PB1/ADC12_IN9, 37 PB2/BOOT1, 38 PE7/FSMC_D4, 39 PE8/FSMC_D5, 40 PE9/FSMC_D6, 41 PE10/FSMC_D7, 42 PE11/FSMC_D8, 43 PE12/FSMC_D9, 44 PE13/FSMC_D10, 45 PE14/FSMC_D11, 46 PE15/FSMC_D12, 47 PB10/SPI2_SCK/I2C2_SCL/USART3_TX, 48 PB11/I2C2_SDA/USART3_RX, 49 VCAP_1 (power), 50 VDD_1, 51 PB12/CAN2_RX/SPI2_NSS/USART3_CK, 52 PB13/CAN2_TX/SPI2_SCK/USART3_CTS, 53 PB14/SPI2_MISO/USART3_RTS, 54 PB15/SPI2_MOSI, 55 PD8/USART3_TX/FSMC_D13, 56 PD9/USART3_RX/FSMC_D14, 57 PD10/FSMC_D15/USART3_CK, 58 PD11/FSMC_A16/USART3_CTS, 59 PD12/USART3_RTS/FSMC_A17, 60 PD13/FSMC_A18, 61 PD14/FSMC_D0, 62 PD15/FSMC_D1, 63 PC6/USART6_TX/SDIO_D6, 64 PC7/USART6_RX/SDIO_D7, 65 PC8/SDIO_D0/USART6_CK, 66 PC9/SDIO_D1/I2C3_SDA, 67 PA8/USART1_CK/I2C3_SCL, 68 PA9/USART1_TX, 69 PA10/USART1_RX, 70 PA11/USART1_CTS/ CAN1_RX, 71 PA12/USART1_RTS/CAN1_TX, 72 PA13/JTMS/SWDIO, 73 VCAP_2, 74 VSS, 75 VDD_2, 76 PA14/JTCK/SWCLK, 77 PA15/JTDI, 78 PC10/UART4_TX/SPI3_SCK/SDIO_D2/ USART3_TX, 79 PC11/UART4_RX/SPI3_MISO/SDIO_D3/USART3_RX, 80 PC12/UART5_TX/SDIO_CK/ SPI3_MOSI/USART3_CK, 81 PD0/CAN1_RX, 82 PD1/CAN1_TX, 83 PD2//UART5_RX/SDIO_CMD, 84 PD3/USART2_CTS, 85 PD4/USART2_RTS, 86 PD5/USART2_TX, 87 PD6/USART2_RX, 88 PD7/USART2_CK, 89 PB3/JTDO/SPI3_SCK/SPI1_SCK, 90 PB4/JNTRST/SPI3_MISO/SPI1_MISO, 91 PB5/CAN2_RX/SPI3_MOSI/SPI1_MOSI, 92 PB6/CAN2_TX/I2C1_SCL/USART1_TX, 93 PB7/I2C1_SDA/USART1_RX, 94 BOOT0, 95 PB8/I2C1_SCL/CAN1_RX/SDIO_D4, 96 PB9/SPI2_NSS/SDIO_D5/I2C1_SDA/CAN1_TX, 97 PE0, 98 PE1, 99 VSS, 100 VDD_3

## STM32G030K8T6
designator U?
footprint TQFP-32 (Thin QFP, 32-Leads, Body 7x7mm, Pitch 0.8mm, IPC Low Density)
pins: 1 PB9, 2 PC14-OSC32IN, 3 PC15-OSC32OUT, 4 VDD/VDDA, 5 VSS/VSSA, 6 NRST, 7 PA0, 8 PA1, 9 PA2/USART2_TX, 10 PA3/USART2_RX, 11 PA4, 12 PA5, 13 PA6, 14 PA7, 15 PB0, 16 PB1, 17 PB2, 18 PA8, 19 PA9/USART1_TX, 20 PC6, 21 PA10/USART1_RX, 22 PA11[PA9], 23 PA12[PA10], 24 PA13/SWDIO, 25 PA14-BOOT0/SWCLK, 26 PA15, 27 PB3, 28 PB4, 29 PB5, 30 PB6, 31 PB7, 32 PB8

## STM32G473RCT6
designator U?
footprint TQFP-64 (Thin QFP, 64-Leads, Body 10x10mm, Pitch 0.5mm, IPC Low Density)
pins: 1 VBAT, 2 PC13, 3 PC14-OSC32_IN, 4 PC15-OSC32_OUT, 5 PF0-OSC_IN, 6 PF1-OSC_OUT, 7 PG10-NRST, 8 PC0, 9 PC1, 10 PC2, 11 PC3, 12 PA0, 13 PA1, 14 PA2, 15 VSS, 16 VDD, 17 PA3, 18 PA4, 19 PA5, 20 PA6, 21 PA7, 22 PC4, 23 PC5, 24 PB0, 25 PB1, 26 PB2, 27 VSSA, 28 VREF+, 29 VDDA, 30 PB10, 31 VSS, 32 VDD, 33 PB11, 34 PB12, 35 PB13, 36 PB14, 37 PB15, 38 PC6, 39 PC7, 40 PC8, 41 PC9, 42 PA8, 43 PA9, 44 PA10, 45 PA11, 46 PA12, 47 VSS, 48 VDD, 49 PA13, 50 PA14, 51 PA15, 52 PC10, 53 PC11, 54 PC12, 55 PD2, 56 PB3, 57 PB4, 58 PB5, 59 PB6, 60 PB7, 61 PB8-BOOT0, 62 PB9, 63 VSS, 64 VDD

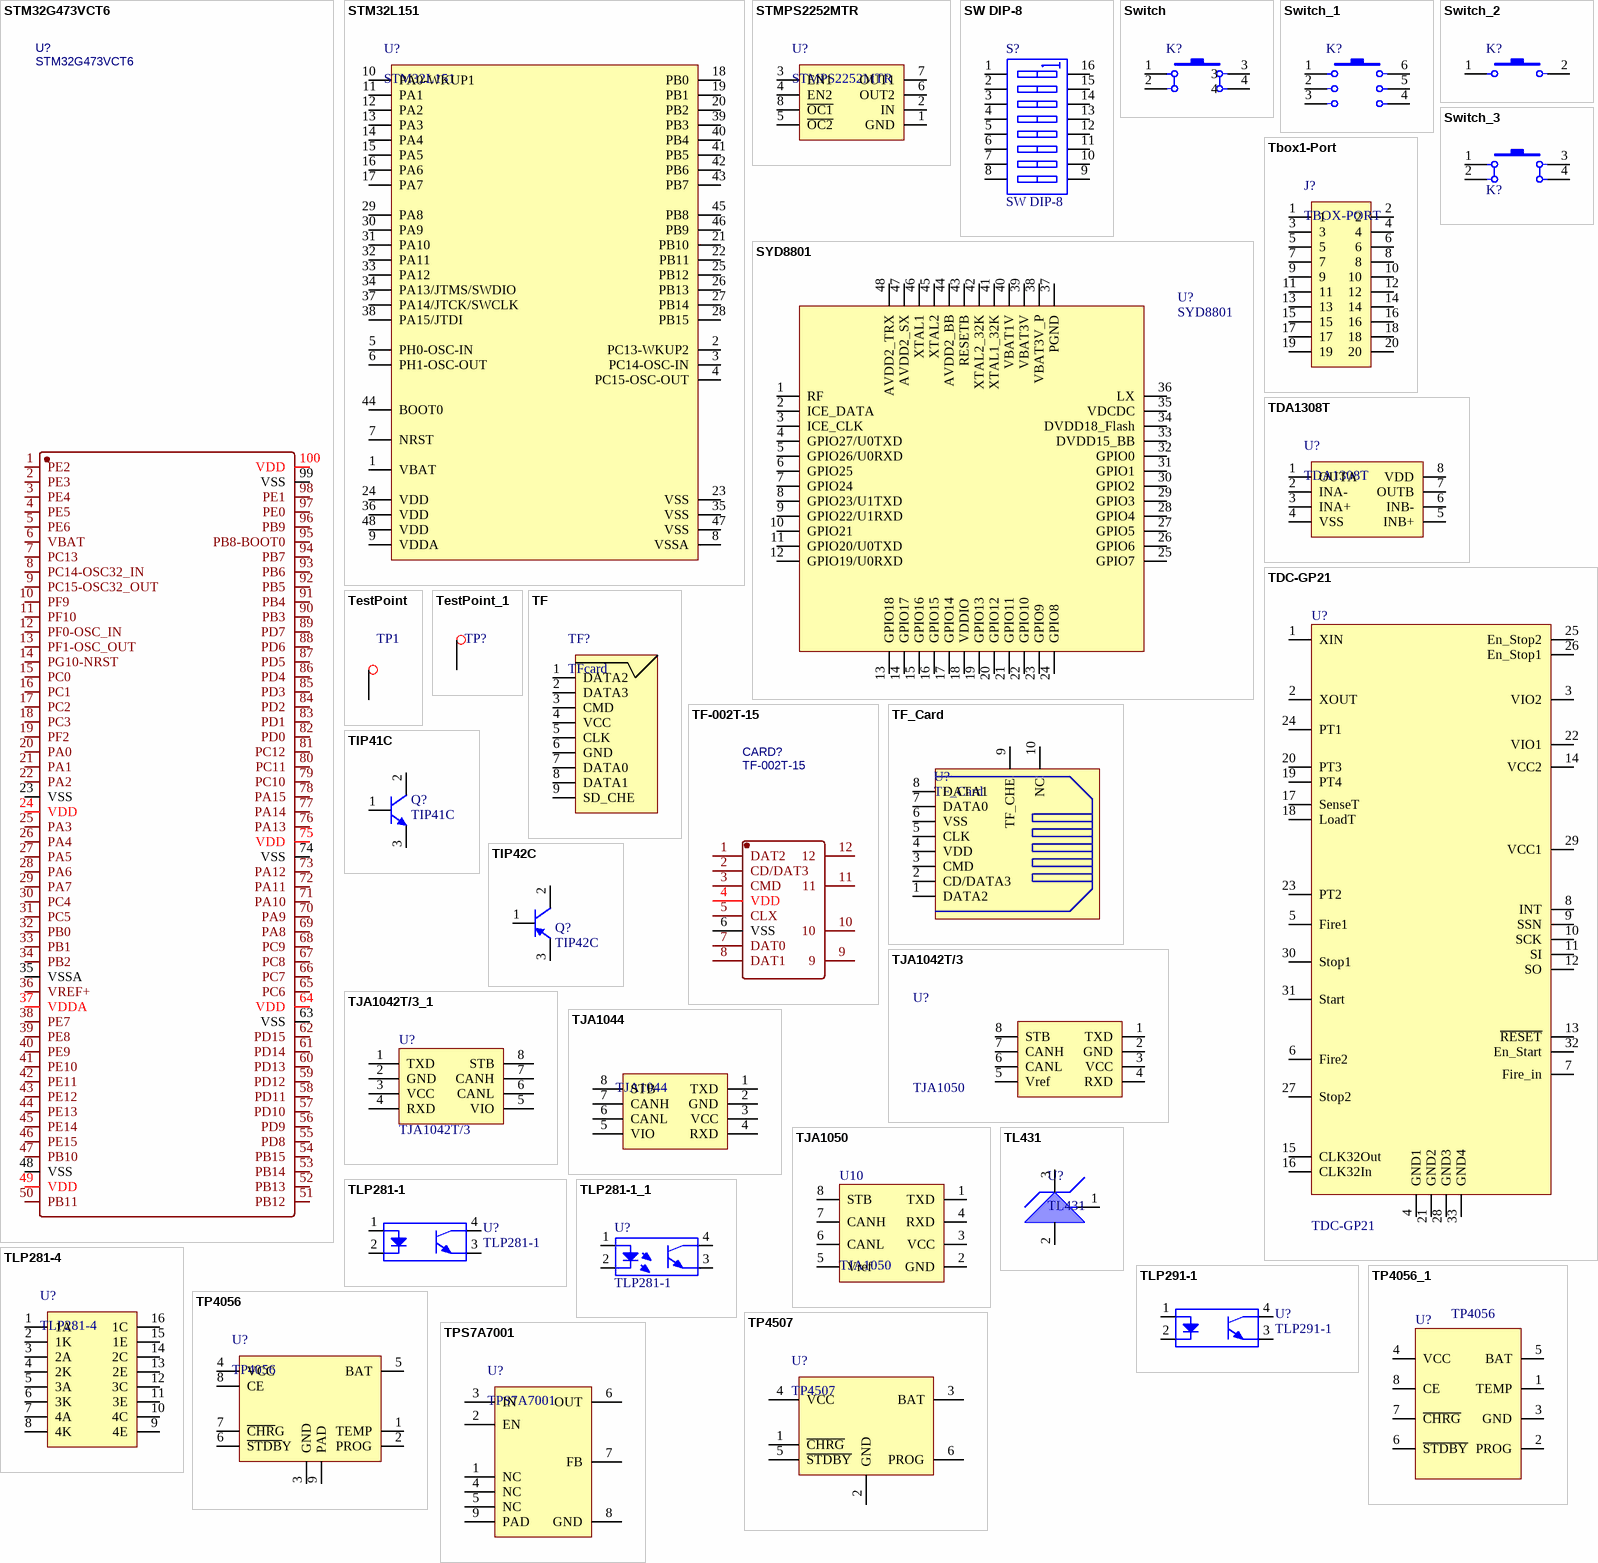
[diagram p17: symbols STM32G473VCT6 to TPS7A7001]

## STM32G473VCT6
designator U?
footprint TQFP-100
pins: 1 PE2, 2 PE3, 3 PE4, 4 PE5, 5 PE6, 6 VBAT, 7 PC13, 8 PC14-OSC32_IN, 9 PC15-OSC32_OUT, 10 PF9, 11 PF10, 12 PF0-OSC_IN, 13 PF1-OSC_OUT, 14 PG10-NRST, 15 PC0, 16 PC1, 17 PC2, 18 PC3, 19 PF2, 20 PA0, 21 PA1, 22 PA2, 23 VSS, 24 VDD, 25 PA3, 26 PA4, 27 PA5, 28 PA6, 29 PA7, 30 PC4, 31 PC5, 32 PB0, 33 PB1, 34 PB2, 35 VSSA, 36 VREF+, 37 VDDA, 38 PE7, 39 PE8, 40 PE9, 41 PE10, 42 PE11, 43 PE12, 44 PE13, 45 PE14, 46 PE15, 47 PB10, 48 VSS, 49 VDD, 50 PB11, 51 PB12, 52 PB13, 53 PB14, 54 PB15, 55 PD8, 56 PD9, 57 PD10, 58 PD11, 59 PD12, 60 PD13, 61 PD14, 62 PD15, 63 VSS, 64 VDD, 65 PC6, 66 PC7, 67 PC8, 68 PC9, 69 PA8, 70 PA9, 71 PA10, 72 PA11, 73 PA12, 74 VSS, 75 VDD, 76 PA13, 77 PA14, 78 PA15, 79 PC10, 80 PC11, 81 PC12, 82 PD0, 83 PD1, 84 PD2, 85 PD3, 86 PD4, 87 PD5, 88 PD6, 89 PD7, 90 PB3, 91 PB4, 92 PB5, 93 PB6, 94 PB7, 95 PB8-BOOT0, 96 PB9, 97 PE0, 98 PE1, 99 VSS, 100 VDD

## STM32L151
designator U?
footprint TQFP-48
pins: 1 VBAT, 2 PC13-WKUP2, 3 PC14-OSC-IN, 4 PC15-OSC-OUT, 5 PH0-OSC-IN, 6 PH1-OSC-OUT, 7 NRST, 8 VSSA, 9 VDDA, 10 PA0-WKUP1, 11 PA1, 12 PA2, 13 PA3, 14 PA4, 15 PA5, 16 PA6, 17 PA7, 18 PB0, 19 PB1, 20 PB2, 21 PB10, 22 PB11, 23 VSS, 24 VDD, 25 PB12, 26 PB13, 27 PB14, 28 PB15, 29 PA8, 30 PA9, 31 PA10, 32 PA11, 33 PA12, 34 PA13/JTMS/SWDIO, 35 VSS, 36 VDD, 37 PA14/JTCK/SWCLK, 38 PA15/JTDI, 39 PB3, 40 PB4, 41 PB5, 42 PB6, 43 PB7, 44 BOOT0, 45 PB8, 46 PB9, 47 VSS, 48 VDD

## STMPS2252MTR
designator U?
footprint SO-8
pins: 1 GND, 2 IN, 3 EN1, 4 EN2, 5 ~{OC2}, 6 OUT2, 7 OUT1, 8 ~{OC1}

## SW DIP-8
designator S?
DIP Switch, 8 Position, SPST
footprint SW-DIP8
pins: 1 A1, 2 A2, 3 A3, 4 A4, 5 A5, 6 A6, 7 A7, 8 A8, 9 B8, 10 B7, 11 B6, 12 B5, 13 B4, 14 B3, 15 B2, 16 B1

## Switch
designator K?, comment SW-PB  (value not drawn)
SWITCH
footprint SW1
footprint SW1-DIP
pins: 1, 2, 3, 4

## Switch_1
designator K?, comment SW-PB  (value not drawn)
SWITCH
footprint KF(8 X 8)
pins: 1, 2, 3, 4, 5, 6

## Switch_2
designator K?, comment SW-PB  (value not drawn)
SWITCH
footprint SW1
footprint SW1-DIP
pins: 1, 2

## Switch_3
designator K?, comment SW-PB  (value not drawn)
SWITCH
footprint SW1
footprint SW1-DIP
pins: 1, 2, 3, 4

## SYD8801
designator U?
SYD8801   low  power  and  high  performance   2.4GHz  Bluetooth Low  Energy SOC
footprint QFN7X7_48P
pins: 1 RF, 2 ICE_DATA, 3 ICE_CLK, 4 GPIO27/U0TXD, 5 GPIO26/U0RXD, 6 GPIO25, 7 GPIO24, 8 GPIO23/U1TXD, 9 GPIO22/U1RXD, 10 GPIO21, 11 GPIO20/U0TXD, 12 GPIO19/U0RXD, 13 GPIO18, 14 GPIO17, 15 GPIO16, 16 GPIO15, 17 GPIO14, 18 VDDIO, 19 GPIO13, 20 GPIO12, 21 GPIO11, 22 GPIO10, 23 GPIO9, 24 GPIO8, 25 GPIO7, 26 GPIO6, 27 GPIO5, 28 GPIO4, 29 GPIO3, 30 GPIO2, 31 GPIO1, 32 GPIO0, 33 DVDD15_BB, 34 DVDD18_Flash, 35 VDCDC, 36 LX, 37 PGND, 38 VBAT3V_P, 39 VBAT3V, 40 VBAT1V, 41 XTAL1_32K, 42 XTAL2_32K, 43 RESETB, 44 AVDD2_BB, 45 XTAL2, 46 XTAL1, 47 AVDD2_SX, 48 AVDD2_TRX
2 alternate drawings of the same symbol

## Tbox1-Port
designator J?, comment TBOX-PORT
footprint Tbox-P20
pins: 1, 2, 3, 4, 5, 6, 7, 8, 9, 10, 11, 12, 13, 14, 15, 16, 17, 18, 19, 20

## TDA1308T
designator U?
footprint SO-8
pins: 1 OUTA, 2 INA-, 3 INA+, 4 VSS, 5 INB+, 6 INB-, 7 OUTB, 8 VDD

## TDC-GP21
designator U?
footprint QFN-32
pins: 1 XIN, 2 XOUT, 3 VIO2, 4 GND1, 5 Fire1, 6 Fire2, 7 Fire_in, 8 INT, 9 SSN, 10 SCK, 11 SI, 12 SO, 13 ~{RESET}, 14 VCC2, 15 CLK32Out, 16 CLK32In, 17 SenseT, 18 LoadT, 19 PT4, 20 PT3, 21 GND2, 22 VIO1, 23 PT2, 24 PT1, 25 En_Stop2, 26 En_Stop1, 27 Stop2, 28 GND3, 29 VCC1, 30 Stop1, 31 Start, 32 En_Start, 33 GND4

## TestPoint
designator TP1  (value not drawn)
footprint TP
pins: 1

## TestPoint_1
designator TP?, comment TestPoint  (value not drawn)
footprint TESTPOINT
pins: 1

## TF
designator TF?, comment TFcard
footprint TF-DM3C-SF
pins: 1 DATA2, 2 DATA3, 3 CMD, 4 VCC, 5 CLK, 6 GND, 7 DATA0, 8 DATA1, 9 SD_CHE

## TF-002T-15
designator CARD?
footprint TF-SMD_TF-002T-15
pins: 1 DAT2, 2 CD/DAT3, 3 CMD, 4 VDD, 5 CLX, 6 VSS, 7 DAT0, 8 DAT1, 9, 10, 11, 12

## TF_Card
designator U?
DM3C-SF
footprint TF_DM3C-SF
pins: 1 DATA2, 2 CD/DATA3, 3 CMD, 4 VDD, 5 CLK, 6 VSS, 7 DATA0, 8 DATA1, 9 TF_CHE, 10 NC

## TIP41C
designator Q?
NPN General Purpose Amplifier
footprint TO-220AB
pins: 1 B, 2 C, 3 E

## TIP42C
designator Q?
PNP Power Transistor
footprint SOT23-3
footprint TO-92 (TO, Flat Index; 3 In-Line, Axial Leads; Body Dia. 4.8mm; Leads 0.55 x 0.51 mm (max))
footprint TO-220AB
footprint TO-220AB-B (TO, Thru-Hole, Vertical, Heatsink Mounted; 3 In-Line Leads; Pitch 2.54 mm)
pins: 1 E, 2 B, 3 C

## TJA1042T/3
designator U?, comment TJA1050
footprint SO-8
pins: 1 TXD, 2 GND, 3 VCC, 4 RXD, 5 Vref, 6 CANL, 7 CANH, 8 STB

## TJA1042T/3_1
designator U?, comment TJA1042T/3
CAN
footprint SO8 (Footprint not found)
footprint ZSOP8
pins: 1 TXD, 2 GND, 3 VCC, 4 RXD, 5 VIO, 6 CANL, 7 CANH, 8 STB

## TJA1044
designator ?
footprint SO-8
pins: 1 TXD, 2 GND, 3 VCC, 4 RXD, 5 VIO, 6 CANL, 7 CANH, 8 STB

## TJA1050
designator U10
footprint SO-8
pins: 1 TXD, 2 GND, 3 VCC, 4 RXD, 5 Vref, 6 CANL, 7 CANH, 8 STB

## TL431
designator U?
footprint TO-92 (TO, Flat Index; 3 In-Line, Axial Leads; Body Dia. 4.8mm; Leads 0.55 x 0.51 mm (max))
pins: 1 R, 2 K, 3 A

## TLP281-1
designator U?
光电耦合器
footprint tlp281
pins: 1, 2, 3, 4

## TLP281-1_1
designator U?, comment TLP281-1
光电耦合器
footprint tlp281
footprint ZTLP281 (tlp281 光耦)
pins: 1, 2, 3, 4

## TLP281-4
designator U?
pins: 1 1A, 2 1K, 3 2A, 4 2K, 5 3A, 6 3K, 7 4A, 8 4K, 9 4E, 10 4C, 11 3E, 12 3C, 13 2E, 14 2C, 15 1E, 16 1C

## TLP291-1
designator U?
光电耦合器
footprint tlp291-1
pins: 1, 2, 3, 4

## TP4056
designator U?
footprint MP4560DN_FOOTPRINT
pins: 1 TEMP, 2 PROG, 3 GND, 4 VCC, 5 BAT, 6 ~{STDB}Y, 7 ~{CHR}G, 8 CE, 9 PAD

## TP4056_1
designator U?, comment TP4056
pins: 1 TEMP, 2 PROG, 3 GND, 4 VCC, 5 BAT, 6 ~{STDBY}, 7 ~{CHRG}, 8 CE

## TP4507
designator U?
footprint SOT23-6
pins: 1 ~{CHRG}, 2 GND, 3 BAT, 4 VCC, 5 ~{STDBY}, 6 PROG

## TPS7A7001
designator U?
footprint DDA
pins: 1 NC, 2 EN, 3 IN, 4 NC, 5 NC, 6 OUT, 7 FB, 8 GND, 9 PAD

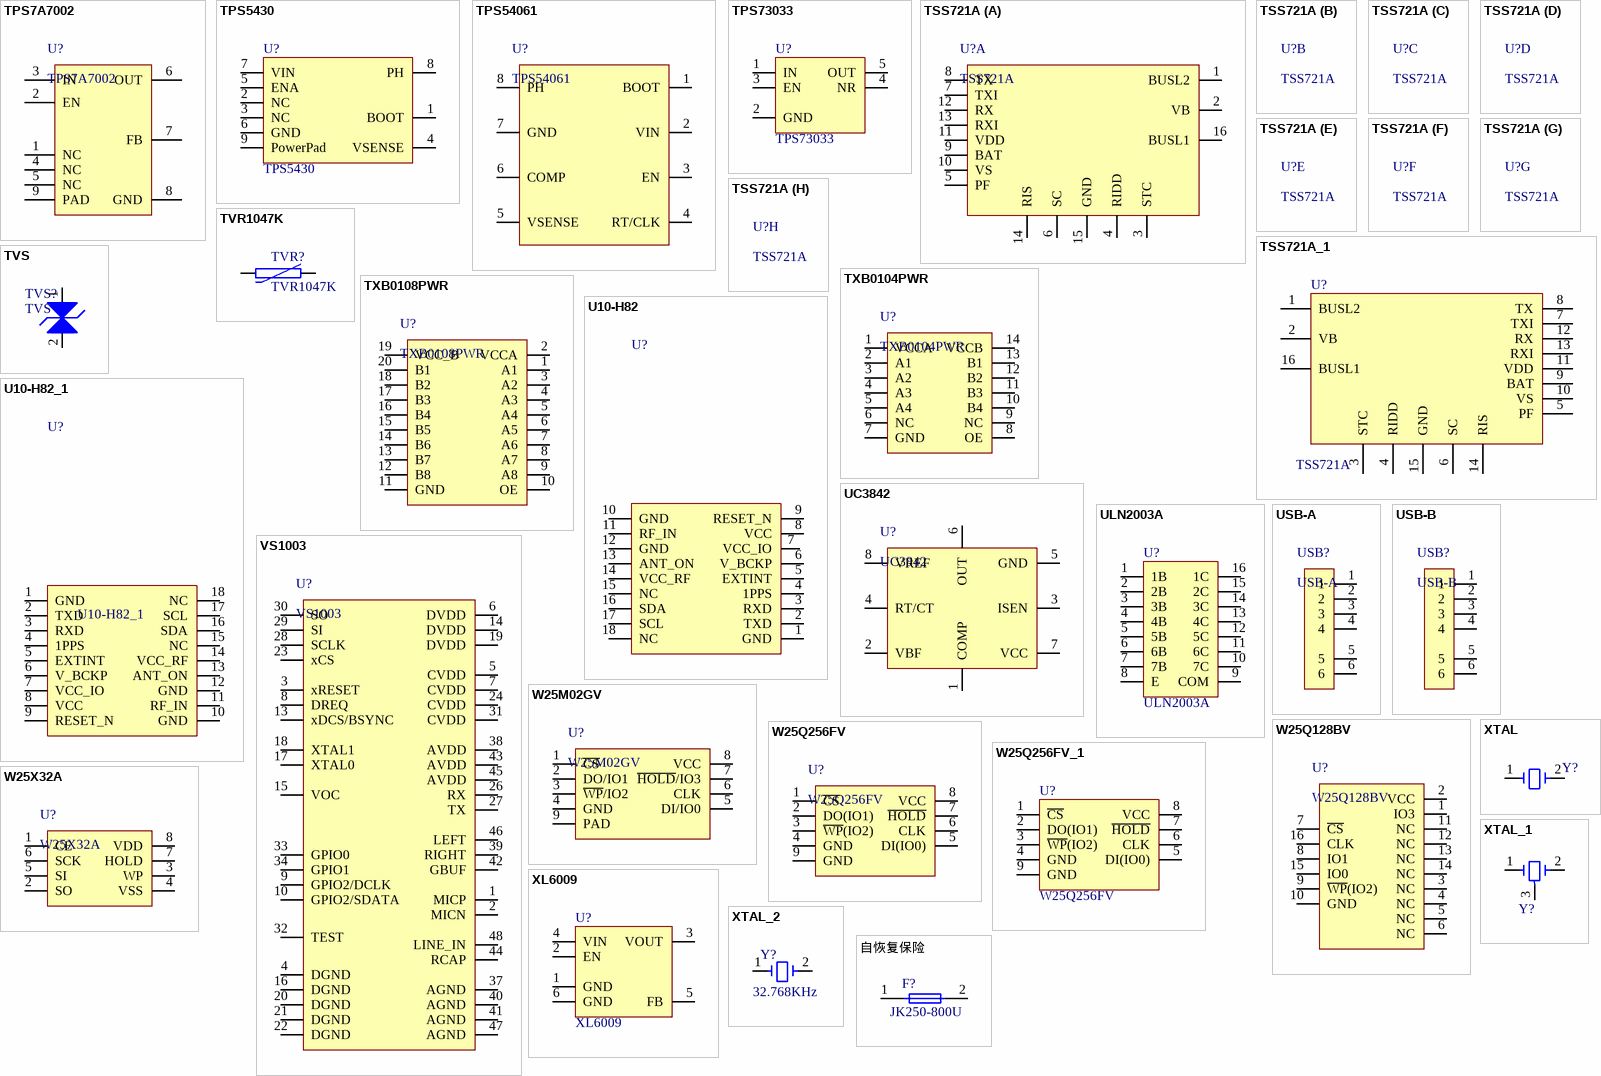
[diagram p18: symbols TPS7A7002 to 自恢复保险]

## TPS7A7002
designator U?
footprint DDA
pins: 1 NC, 2 EN, 3 IN, 4 NC, 5 NC, 6 OUT, 7 FB, 8 GND, 9 PAD

## TPS5430
designator U?
3-A, WIDE INPUT RANGE, STEP-DOWN SWIFT? CONVERTER
footprint TPS5430
pins: 1 BOOT, 2 NC, 3 NC, 4 VSENSE, 5 ENA, 6 GND, 7 VIN, 8 PH, 9 PowerPad

## TPS54061
designator U?
pins: 1 BOOT, 2 VIN, 3 EN, 4 RT/CLK, 5 VSENSE, 6 COMP, 7 GND, 8 PH

## TPS73033
designator U?
TI LOW-NOISE, HIGH PSRR, RF 200-mA LOW-DROPOUT LINEAR REGULATORS
footprint SOT23-5
pins: 1 IN, 2 GND, 3 EN, 4 NR, 5 OUT

## TSS721A
designator U?
footprint SO-16
part A pins: 1 BUSL2, 2 VB, 3 STC, 4 RIDD, 5 PF, 6 SC, 7 TXI, 8 TX, 9 BAT, 10 VS, 11 VDD, 12 RX, 13 RXI, 14 RIS, 15 GND, 16 BUSL1

## TSS721A_1
designator U?, comment TSS721A
footprint SO-16
pins: 1 BUSL2, 2 VB, 3 STC, 4 RIDD, 5 PF, 6 SC, 7 TXI, 8 TX, 9 BAT, 10 VS, 11 VDD, 12 RX, 13 RXI, 14 RIS, 15 GND, 16 BUSL1

## TVR1047K
designator TVR?
footprint TVR1047K
footprint 1812
pins: 1, 2

## TVS
designator TVS?
Bidirection TVS
footprint SOD-323
footprint Sma
footprint SMB
footprint 0805
pins: 1 A, 2 A

## TXB0104PWR
designator U?
footprint TSSOP-14
pins: 1 VCCA, 2 A1, 3 A2, 4 A3, 5 A4, 6 NC, 7 GND, 8 OE, 9 NC, 10 B4, 11 B3, 12 B2, 13 B1, 14 VCCB

## TXB0108PWR
designator U?
footprint SSOP-20
pins: 1 A1, 2 VCCA, 3 A2, 4 A3, 5 A4, 6 A5, 7 A6, 8 A7, 9 A8, 10 OE, 11 GND, 12 B8, 13 B7, 14 B6, 15 B5, 16 B4, 17 B3, 18 B2, 19 VCC_B, 20 B1

## U10-H82
designator U?, comment U82  (value not drawn)
footprint U10-H82
pins: 1 GND, 2 TXD, 3 RXD, 4 1PPS, 5 EXTINT, 6 V_BCKP, 7 VCC_IO, 8 VCC, 9 RESET_N, 10 GND, 11 RF_IN, 12 GND, 13 ANT_ON, 14 VCC_RF, 15 NC, 16 SDA, 17 SCL, 18 NC
2 alternate drawings of the same symbol

## U10-H82_1
designator U?
footprint U10-H82
pins: 1 GND, 2 TXD, 3 RXD, 4 1PPS, 5 EXTINT, 6 V_BCKP, 7 VCC_IO, 8 VCC, 9 RESET_N, 10 GND, 11 RF_IN, 12 GND, 13 ANT_ON, 14 VCC_RF, 15 NC, 16 SDA, 17 SCL, 18 NC
2 alternate drawings of the same symbol

## UC3842
designator U?
footprint SO-8
pins: 1 COMP, 2 VBF, 3 ISEN, 4 RT/CT, 5 GND, 6 OUT, 7 VCC, 8 VREF

## ULN2003A
designator U?
HIGH-VOLTAGE,HIGH-CURRENTDARLINGTONTRANSISTORARRAYS
footprint SO-16
pins: 1 1B, 2 2B, 3 3B, 4 4B, 5 5B, 6 6B, 7 7B, 8 E, 9 COM, 10 7C, 11 6C, 12 5C, 13 4C, 14 3C, 15 2C, 16 1C